# Altium integrated library Altera APEX 20K.IntLib: 93 symbols (part 1 of 14)
Pins are listed as number, name and electrical type; pins without a type are passive.

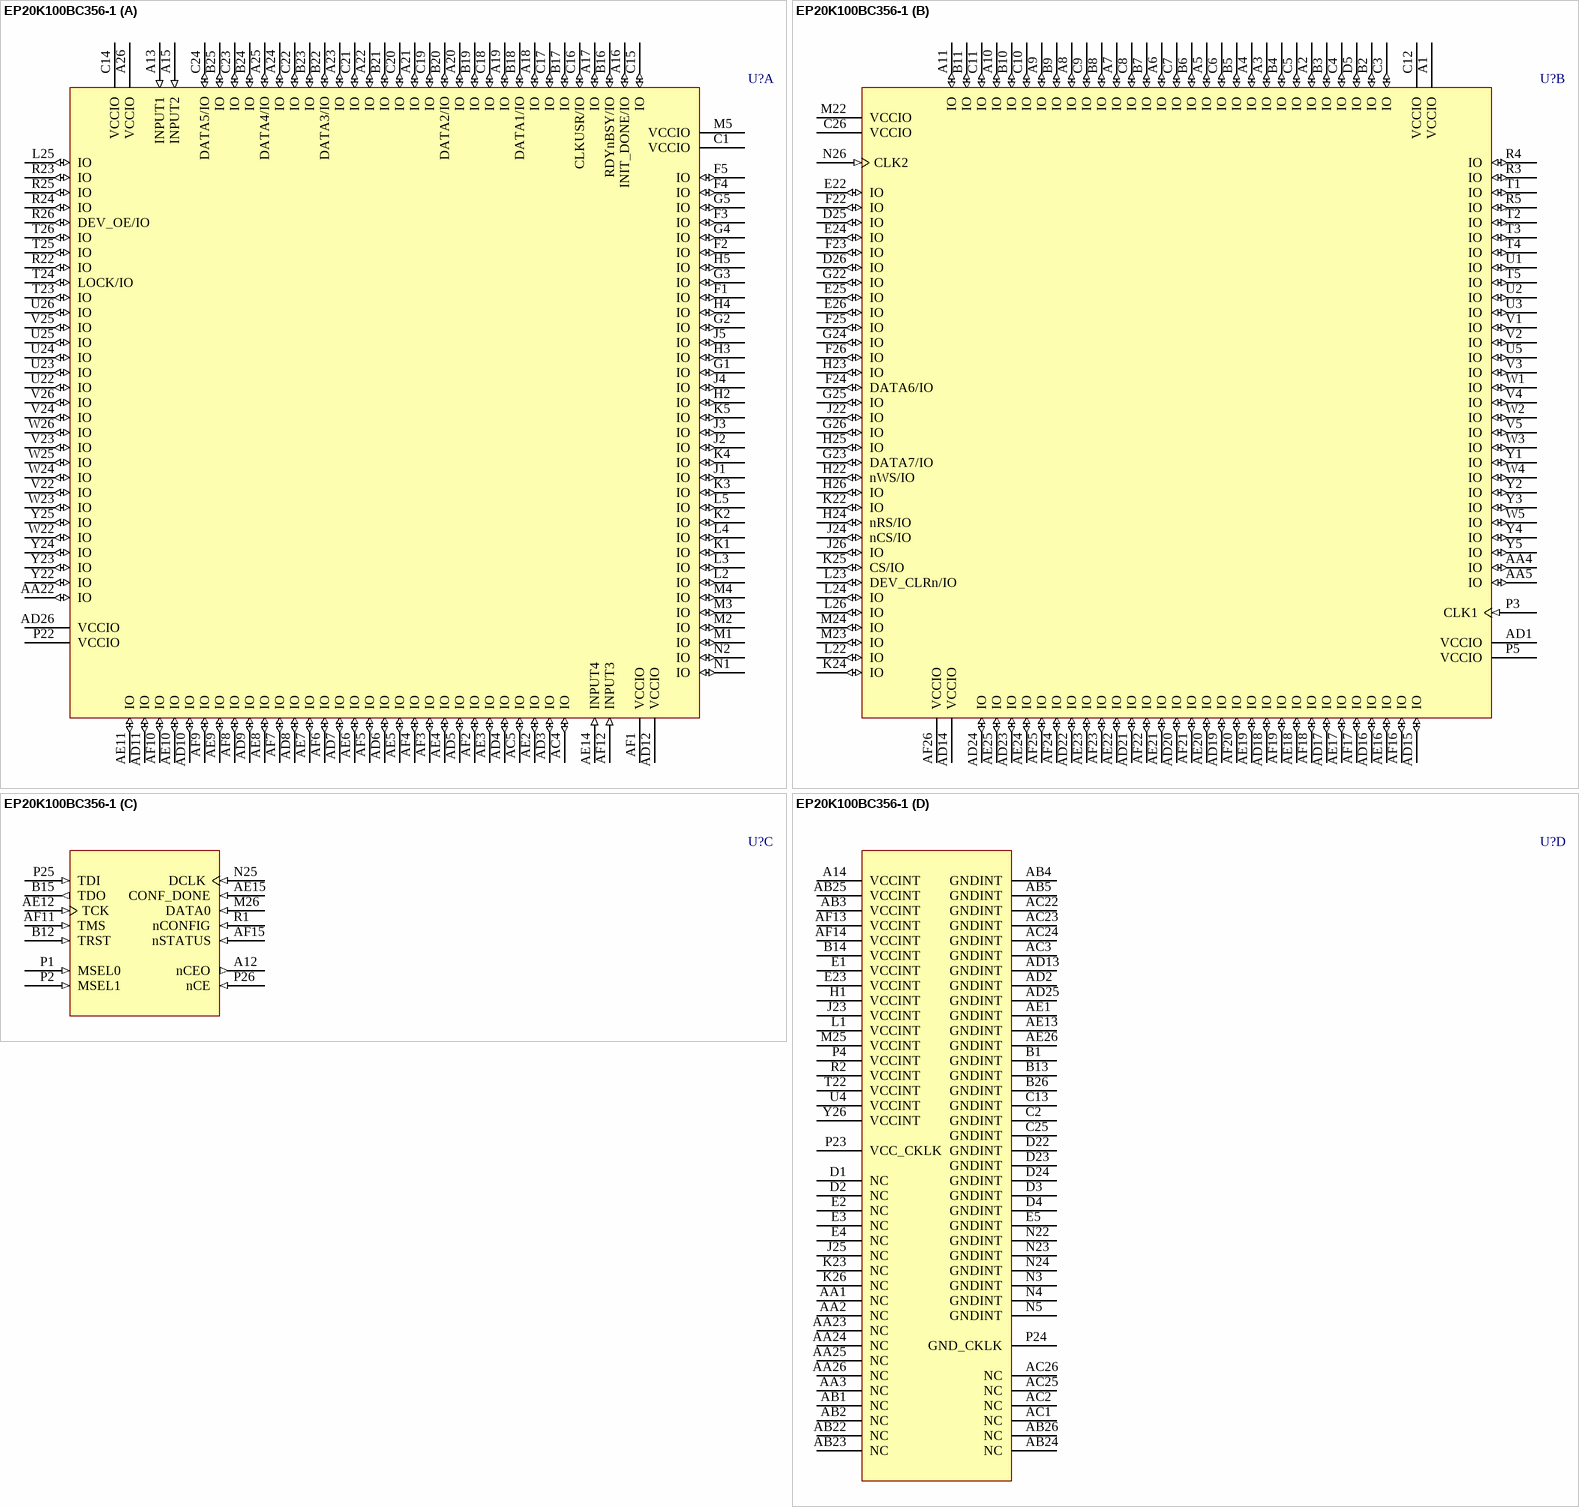
[diagram p0: symbol EP20K100BC356-1]

## EP20K100BC356-1
designator U?
APEX 20K100 PLD, 356-Pin BGA, Commercial Grade, Speed Grade 1; Published: 17-Jul-2002; LatestRevisionDate: 13-Apr-2006; LatestRevisionNote: IPC-7351 Footprint Added.; DatasheetVersion: ver5.1, Mar-2004; PackageVersion: ver14.2, Oct-2005; PackageReference: BGA356; Publisher: Altium Limited; PackageDescription: 356-Ball Ball Grid Array (BGA356); Code_JEDEC: MO-192-BAR-2; ComponentLink1Description: Manufacturer Link; ComponentLink1URL: http://www.altera.com/products/devices/apex/apx-index.html; ComponentLink2Description: Datasheet; ComponentLink2URL: http://www.altera.com/literature/ds/apex.pdf
footprint BGA356 (BGA, 356-Leads, Body 35x35mm, Pitch 1.27mm)
3D model EP20K100-BGA356 (356-Ball Ball Grid Array (BGA356))
part A pins: A13 INPUT1 (in), A15 INPUT2 (in), A16 INIT_DONE/IO (io), A17 IO (io), A18 IO (io), A19 IO (io), A20 IO (io), A21 IO (io), A22 IO (io), A23 IO (io), A24 IO (io), A25 DATA4/IO (io), A26 VCCIO (power), AA22 IO (io), AC4 IO (io), AC5 IO (io), AD3 IO (io), AD4 IO (io), AD5 IO (io), AD6 IO (io), AD7 IO (io), AD8 IO (io), AD9 IO (io), AD10 IO (io), AD11 IO (io), AD12 VCCIO (power), AD26 VCCIO (power), AE2 IO (io), AE3 IO (io), AE4 IO (io), AE5 IO (io), AE6 IO (io), AE7 IO (io), AE8 IO (io), AE9 IO (io), AE10 IO (io), AE11 IO (io), AE14 INPUT4 (in), AF1 VCCIO (power), AF2 IO (io), AF3 IO (io), AF4 IO (io), AF5 IO (io), AF6 IO (io), AF7 IO (io), AF8 IO (io), AF9 IO (io), AF10 IO (io), AF12 INPUT3 (in), B16 RDYnBSY/IO (io), B17 IO (io), B18 DATA1/IO (io), B19 IO (io), B20 DATA2/IO (io), B21 IO (io), B22 DATA3/IO (io), B23 IO (io), B24 IO (io), B25 IO (io), C1 VCCIO (power), C14 VCCIO (power), C15 IO (io), C16 CLKUSR/IO (io), C17 IO (io), C18 IO (io), C19 IO (io), C20 IO (io), C21 IO (io), C22 IO (io), C23 IO (io), C24 DATA5/IO (io), F1 IO (io), F2 IO (io), F3 IO (io), F4 IO (io), F5 IO (io), G1 IO (io), G2 IO (io), G3 IO (io), G4 IO (io), G5 IO (io), H2 IO (io), H3 IO (io), H4 IO (io), H5 IO (io), J1 IO (io), J2 IO (io), J3 IO (io), J4 IO (io), J5 IO (io), K1 IO (io), K2 IO (io), K3 IO (io), K4 IO (io), K5 IO (io), L2 IO (io), L3 IO (io), L4 IO (io), L5 IO (io), L25 IO (io), M1 IO (io), M2 IO (io), M3 IO (io), M4 IO (io), M5 VCCIO (power), N1 IO (io), N2 IO (io), P22 VCCIO (power), R22 IO (io), R23 IO (io), R24 IO (io), R25 IO (io), R26 DEV_OE/IO (io), T23 IO (io), T24 LOCK/IO (io), T25 IO (io), T26 IO (io), U22 IO (io), U23 IO (io), U24 IO (io), U25 IO (io), U26 IO (io), V22 IO (io), V23 IO (io), V24 IO (io), V25 IO (io), V26 IO (io), W22 IO (io), W23 IO (io), W24 IO (io), W25 IO (io), W26 IO (io), Y22 IO (io), Y23 IO (io), Y24 IO (io), Y25 IO (io)
part B pins: A1 VCCIO (power), A2 IO (io), A3 IO (io), A4 IO (io), A5 IO (io), A6 IO (io), A7 IO (io), A8 IO (io), A9 IO (io), A10 IO (io), A11 IO (io), AA4 IO (io), AA5 IO (io), AD1 VCCIO (power), AD14 VCCIO (power), AD15 IO (io), AD16 IO (io), AD17 IO (io), AD18 IO (io), AD19 IO (io), AD20 IO (io), AD21 IO (io), AD22 IO (io), AD23 IO (io), AD24 IO (io), AE16 IO (io), AE17 IO (io), AE18 IO (io), AE19 IO (io), AE20 IO (io), AE21 IO (io), AE22 IO (io), AE23 IO (io), AE24 IO (io), AE25 IO (io), AF16 IO (io), AF17 IO (io), AF18 IO (io), AF19 IO (io), AF20 IO (io), AF21 IO (io), AF22 IO (io), AF23 IO (io), AF24 IO (io), AF25 IO (io), AF26 VCCIO (power), B2 IO (io), B3 IO (io), B4 IO (io), B5 IO (io), B6 IO (io), B7 IO (io), B8 IO (io), B9 IO (io), B10 IO (io), B11 IO (io), C3 IO (io), C4 IO (io), C5 IO (io), C6 IO (io), C7 IO (io), C8 IO (io), C9 IO (io), C10 IO (io), C11 IO (io), C12 VCCIO (power), C26 VCCIO (power), D5 IO (io), D25 IO (io), D26 IO (io), E22 IO (io), E24 IO (io), E25 IO (io), E26 IO (io), F22 IO (io), F23 IO (io), F24 DATA6/IO (io), F25 IO (io), F26 IO (io), G22 IO (io), G23 DATA7/IO (io), G24 IO (io), G25 IO (io), G26 IO (io), H22 nWS/IO (io), H23 IO (io), H24 nRS/IO (io), H25 IO (io), H26 IO (io), J22 IO (io), J24 nCS/IO (io), J26 IO (io), K22 IO (io), K24 IO (io), K25 CS/IO (io), L22 IO (io), L23 DEV_CLRn/IO (io), L24 IO (io), L26 IO (io), M22 VCCIO (power), M23 IO (io), M24 IO (io), N26 CLK2 (in), P3 CLK1 (in), P5 VCCIO (power), R3 IO (io), R4 IO (io), R5 IO (io), T1 IO (io), T2 IO (io), T3 IO (io), T4 IO (io), T5 IO (io), U1 IO (io), U2 IO (io), U3 IO (io), U5 IO (io), V1 IO (io), V2 IO (io), V3 IO (io), V4 IO (io), V5 IO (io), W1 IO (io), W2 IO (io), W3 IO (io), W4 IO (io), W5 IO (io), Y1 IO (io), Y2 IO (io), Y3 IO (io), Y4 IO (io), Y5 IO (io)
part C pins: A12 nCEO (out), AE12 TCK (in), AE15 CONF_DONE (in), AF11 TMS (in), AF15 nSTATUS (in), B12 TRST (in), B15 TDO (out), M26 DATA0 (in), N25 DCLK (in), P1 MSEL0 (in), P2 MSEL1 (in), P25 TDI (in), P26 nCE (in), R1 nCONFIG (in)
part D pins: A14 VCCINT (power), AA1 NC, AA2 NC, AA3 NC, AA23 NC, AA24 NC, AA25 NC, AA26 NC, AB1 NC, AB2 NC, AB3 VCCINT (power), AB4 GNDINT (power), AB5 GNDINT (power), AB22 NC, AB23 NC, AB24 NC, AB25 VCCINT (power), AB26 NC, AC1 NC, AC2 NC, AC3 GNDINT (power), AC22 GNDINT (power), AC23 GNDINT (power), AC24 GNDINT (power), AC25 NC, AC26 NC, AD2 GNDINT (power), AD13 GNDINT (power), AD25 GNDINT (power), AE1 GNDINT (power), AE13 GNDINT (power), AE26 GNDINT (power), AF13 VCCINT (power), AF14 VCCINT (power), B1 GNDINT (power), B13 GNDINT (power), B14 VCCINT (power), B26 GNDINT (power), C2 GNDINT (power), C13 GNDINT (power), C25 GNDINT (power), D1 NC, D2 NC, D3 GNDINT (power), D4 GNDINT (power), D22 GNDINT (power), D23 GNDINT (power), D24 GNDINT (power), E1 VCCINT (power), E2 NC, E3 NC, E4 NC, E5 GNDINT (power), E23 VCCINT (power), H1 VCCINT (power), J23 VCCINT (power), J25 NC, K23 NC, K26 NC, L1 VCCINT (power), M25 VCCINT (power), N3 GNDINT (power), N4 GNDINT (power), N5 GNDINT (power), N22 GNDINT (power), N23 GNDINT (power), N24 GNDINT (power), P4 VCCINT (power), P23 VCC_CKLK (power), P24 GND_CKLK (power), R2 VCCINT (power), T22 VCCINT (power), U4 VCCINT (power), Y26 VCCINT (power)

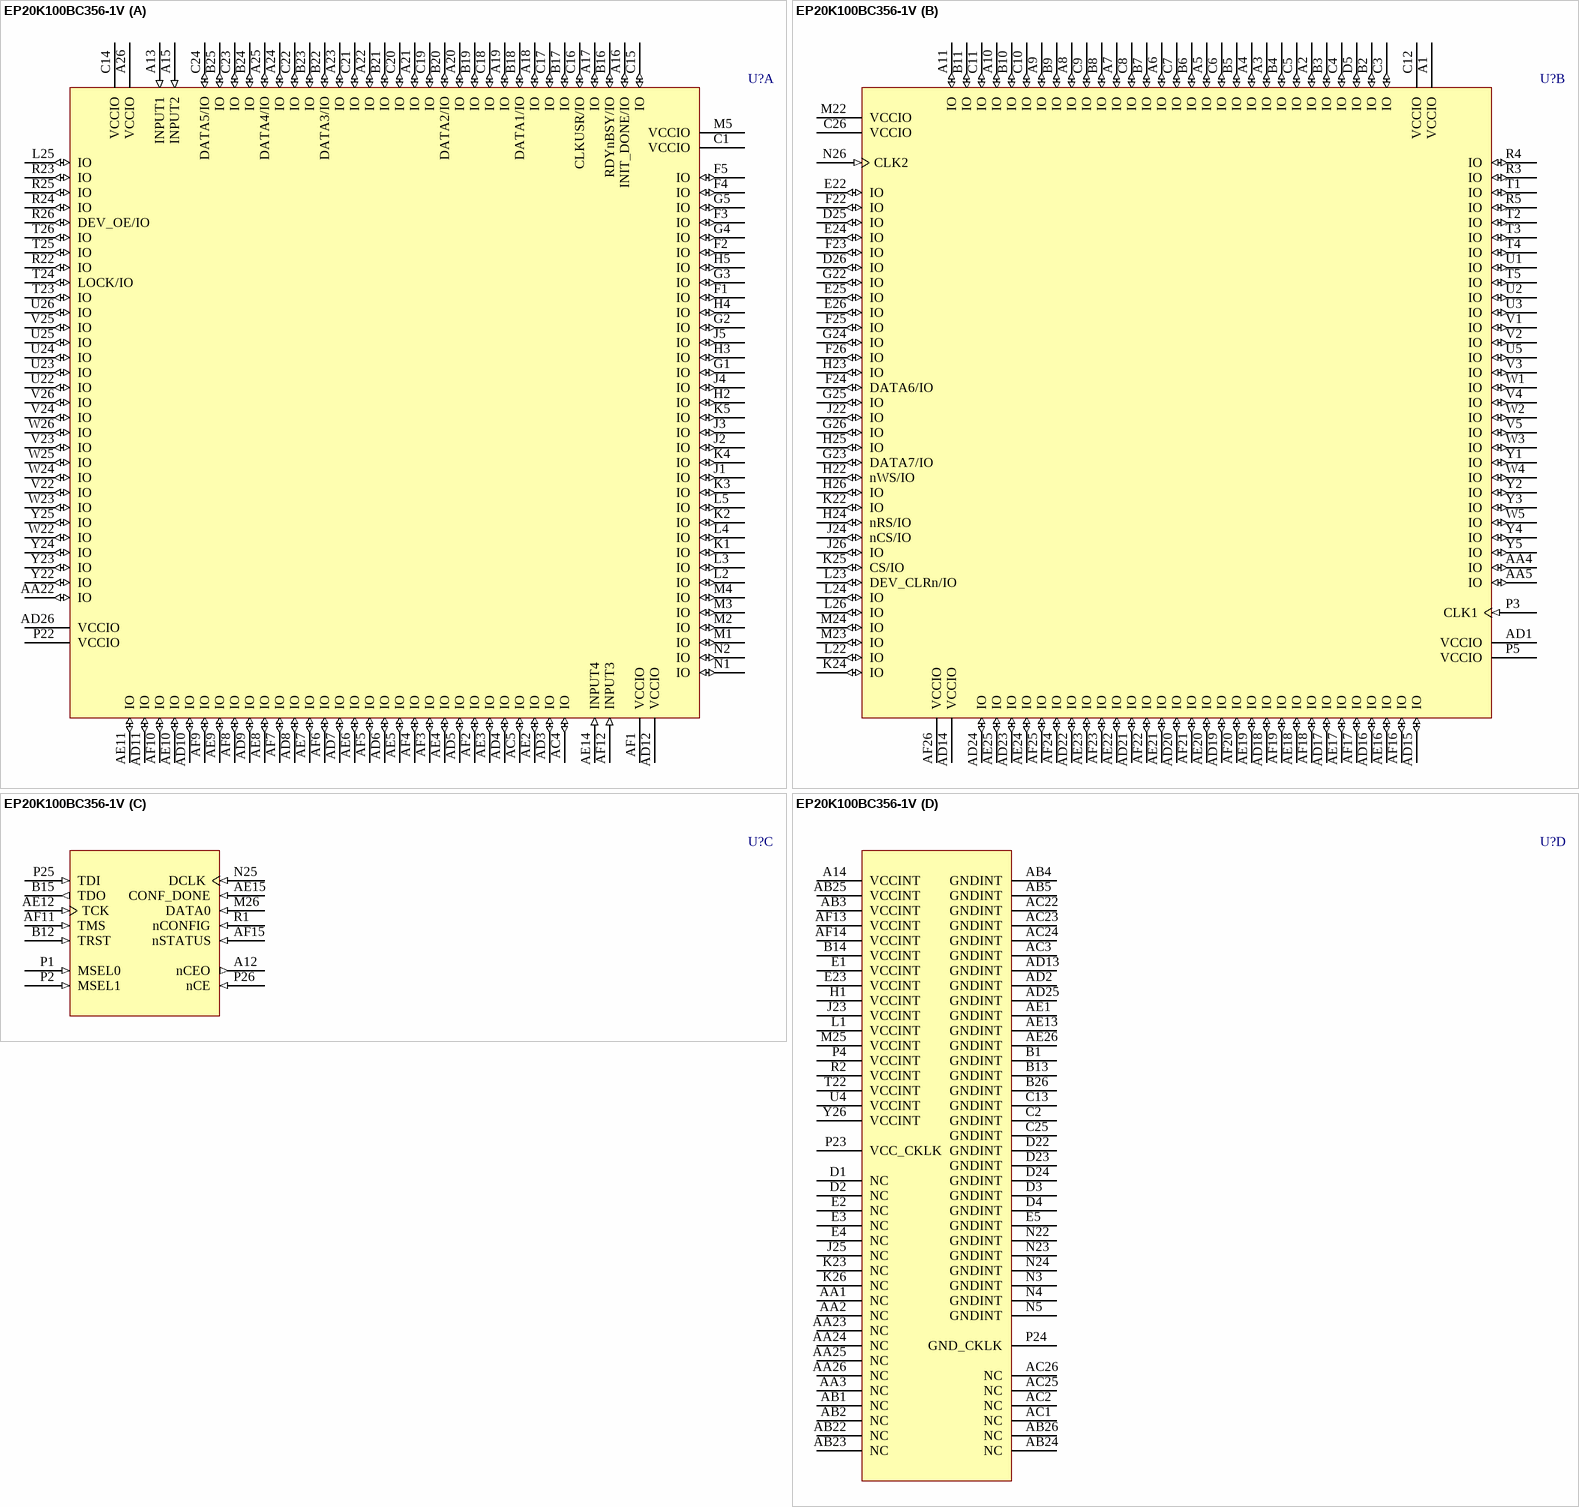
[diagram p1: symbol EP20K100BC356-1V]

## EP20K100BC356-1V
designator U?
APEX 20K100 PLD with 5 V tolerant inputs, 356-Pin BGA, Commercial Grade, Speed Grade 1; ComponentAvailability: Last order accepted - 22-Jul-2005; Published: 17-Jul-2002; LatestRevisionDate: 13-Apr-2006; LatestRevisionNote: IPC-7351 Footprint Added.; DatasheetVersion: ver5.1, Mar-2004; PackageVersion: ver14.2, Oct-2005; PackageReference: BGA356; Publisher: Altium Limited; PackageDescription: 356-Ball Ball Grid Array (BGA356); Code_JEDEC: MO-192-BAR-2; ComponentLink1Description: Manufacturer Link; ComponentLink1URL: http://www.altera.com/products/devices/apex/apx-index.html; ComponentLink2Description: Datasheet; ComponentLink2URL: http://www.altera.com/literature/ds/apex.pdf; ComponentLink3Description: Discontinuation Notice; ComponentLink3URL: http://www.altera.com/literature/pcn/pdn0401.pdf
footprint BGA356 (BGA, 356-Leads, Body 35x35mm, Pitch 1.27mm)
3D model EP20K100-BGA356 (356-Ball Ball Grid Array (BGA356))
part A pins: A13 INPUT1 (in), A15 INPUT2 (in), A16 INIT_DONE/IO (io), A17 IO (io), A18 IO (io), A19 IO (io), A20 IO (io), A21 IO (io), A22 IO (io), A23 IO (io), A24 IO (io), A25 DATA4/IO (io), A26 VCCIO (power), AA22 IO (io), AC4 IO (io), AC5 IO (io), AD3 IO (io), AD4 IO (io), AD5 IO (io), AD6 IO (io), AD7 IO (io), AD8 IO (io), AD9 IO (io), AD10 IO (io), AD11 IO (io), AD12 VCCIO (power), AD26 VCCIO (power), AE2 IO (io), AE3 IO (io), AE4 IO (io), AE5 IO (io), AE6 IO (io), AE7 IO (io), AE8 IO (io), AE9 IO (io), AE10 IO (io), AE11 IO (io), AE14 INPUT4 (in), AF1 VCCIO (power), AF2 IO (io), AF3 IO (io), AF4 IO (io), AF5 IO (io), AF6 IO (io), AF7 IO (io), AF8 IO (io), AF9 IO (io), AF10 IO (io), AF12 INPUT3 (in), B16 RDYnBSY/IO (io), B17 IO (io), B18 DATA1/IO (io), B19 IO (io), B20 DATA2/IO (io), B21 IO (io), B22 DATA3/IO (io), B23 IO (io), B24 IO (io), B25 IO (io), C1 VCCIO (power), C14 VCCIO (power), C15 IO (io), C16 CLKUSR/IO (io), C17 IO (io), C18 IO (io), C19 IO (io), C20 IO (io), C21 IO (io), C22 IO (io), C23 IO (io), C24 DATA5/IO (io), F1 IO (io), F2 IO (io), F3 IO (io), F4 IO (io), F5 IO (io), G1 IO (io), G2 IO (io), G3 IO (io), G4 IO (io), G5 IO (io), H2 IO (io), H3 IO (io), H4 IO (io), H5 IO (io), J1 IO (io), J2 IO (io), J3 IO (io), J4 IO (io), J5 IO (io), K1 IO (io), K2 IO (io), K3 IO (io), K4 IO (io), K5 IO (io), L2 IO (io), L3 IO (io), L4 IO (io), L5 IO (io), L25 IO (io), M1 IO (io), M2 IO (io), M3 IO (io), M4 IO (io), M5 VCCIO (power), N1 IO (io), N2 IO (io), P22 VCCIO (power), R22 IO (io), R23 IO (io), R24 IO (io), R25 IO (io), R26 DEV_OE/IO (io), T23 IO (io), T24 LOCK/IO (io), T25 IO (io), T26 IO (io), U22 IO (io), U23 IO (io), U24 IO (io), U25 IO (io), U26 IO (io), V22 IO (io), V23 IO (io), V24 IO (io), V25 IO (io), V26 IO (io), W22 IO (io), W23 IO (io), W24 IO (io), W25 IO (io), W26 IO (io), Y22 IO (io), Y23 IO (io), Y24 IO (io), Y25 IO (io)
part B pins: A1 VCCIO (power), A2 IO (io), A3 IO (io), A4 IO (io), A5 IO (io), A6 IO (io), A7 IO (io), A8 IO (io), A9 IO (io), A10 IO (io), A11 IO (io), AA4 IO (io), AA5 IO (io), AD1 VCCIO (power), AD14 VCCIO (power), AD15 IO (io), AD16 IO (io), AD17 IO (io), AD18 IO (io), AD19 IO (io), AD20 IO (io), AD21 IO (io), AD22 IO (io), AD23 IO (io), AD24 IO (io), AE16 IO (io), AE17 IO (io), AE18 IO (io), AE19 IO (io), AE20 IO (io), AE21 IO (io), AE22 IO (io), AE23 IO (io), AE24 IO (io), AE25 IO (io), AF16 IO (io), AF17 IO (io), AF18 IO (io), AF19 IO (io), AF20 IO (io), AF21 IO (io), AF22 IO (io), AF23 IO (io), AF24 IO (io), AF25 IO (io), AF26 VCCIO (power), B2 IO (io), B3 IO (io), B4 IO (io), B5 IO (io), B6 IO (io), B7 IO (io), B8 IO (io), B9 IO (io), B10 IO (io), B11 IO (io), C3 IO (io), C4 IO (io), C5 IO (io), C6 IO (io), C7 IO (io), C8 IO (io), C9 IO (io), C10 IO (io), C11 IO (io), C12 VCCIO (power), C26 VCCIO (power), D5 IO (io), D25 IO (io), D26 IO (io), E22 IO (io), E24 IO (io), E25 IO (io), E26 IO (io), F22 IO (io), F23 IO (io), F24 DATA6/IO (io), F25 IO (io), F26 IO (io), G22 IO (io), G23 DATA7/IO (io), G24 IO (io), G25 IO (io), G26 IO (io), H22 nWS/IO (io), H23 IO (io), H24 nRS/IO (io), H25 IO (io), H26 IO (io), J22 IO (io), J24 nCS/IO (io), J26 IO (io), K22 IO (io), K24 IO (io), K25 CS/IO (io), L22 IO (io), L23 DEV_CLRn/IO (io), L24 IO (io), L26 IO (io), M22 VCCIO (power), M23 IO (io), M24 IO (io), N26 CLK2 (in), P3 CLK1 (in), P5 VCCIO (power), R3 IO (io), R4 IO (io), R5 IO (io), T1 IO (io), T2 IO (io), T3 IO (io), T4 IO (io), T5 IO (io), U1 IO (io), U2 IO (io), U3 IO (io), U5 IO (io), V1 IO (io), V2 IO (io), V3 IO (io), V4 IO (io), V5 IO (io), W1 IO (io), W2 IO (io), W3 IO (io), W4 IO (io), W5 IO (io), Y1 IO (io), Y2 IO (io), Y3 IO (io), Y4 IO (io), Y5 IO (io)
part C pins: A12 nCEO (out), AE12 TCK (in), AE15 CONF_DONE (in), AF11 TMS (in), AF15 nSTATUS (in), B12 TRST (in), B15 TDO (out), M26 DATA0 (in), N25 DCLK (in), P1 MSEL0 (in), P2 MSEL1 (in), P25 TDI (in), P26 nCE (in), R1 nCONFIG (in)
part D pins: A14 VCCINT (power), AA1 NC, AA2 NC, AA3 NC, AA23 NC, AA24 NC, AA25 NC, AA26 NC, AB1 NC, AB2 NC, AB3 VCCINT (power), AB4 GNDINT (power), AB5 GNDINT (power), AB22 NC, AB23 NC, AB24 NC, AB25 VCCINT (power), AB26 NC, AC1 NC, AC2 NC, AC3 GNDINT (power), AC22 GNDINT (power), AC23 GNDINT (power), AC24 GNDINT (power), AC25 NC, AC26 NC, AD2 GNDINT (power), AD13 GNDINT (power), AD25 GNDINT (power), AE1 GNDINT (power), AE13 GNDINT (power), AE26 GNDINT (power), AF13 VCCINT (power), AF14 VCCINT (power), B1 GNDINT (power), B13 GNDINT (power), B14 VCCINT (power), B26 GNDINT (power), C2 GNDINT (power), C13 GNDINT (power), C25 GNDINT (power), D1 NC, D2 NC, D3 GNDINT (power), D4 GNDINT (power), D22 GNDINT (power), D23 GNDINT (power), D24 GNDINT (power), E1 VCCINT (power), E2 NC, E3 NC, E4 NC, E5 GNDINT (power), E23 VCCINT (power), H1 VCCINT (power), J23 VCCINT (power), J25 NC, K23 NC, K26 NC, L1 VCCINT (power), M25 VCCINT (power), N3 GNDINT (power), N4 GNDINT (power), N5 GNDINT (power), N22 GNDINT (power), N23 GNDINT (power), N24 GNDINT (power), P4 VCCINT (power), P23 VCC_CKLK (power), P24 GND_CKLK (power), R2 VCCINT (power), T22 VCCINT (power), U4 VCCINT (power), Y26 VCCINT (power)

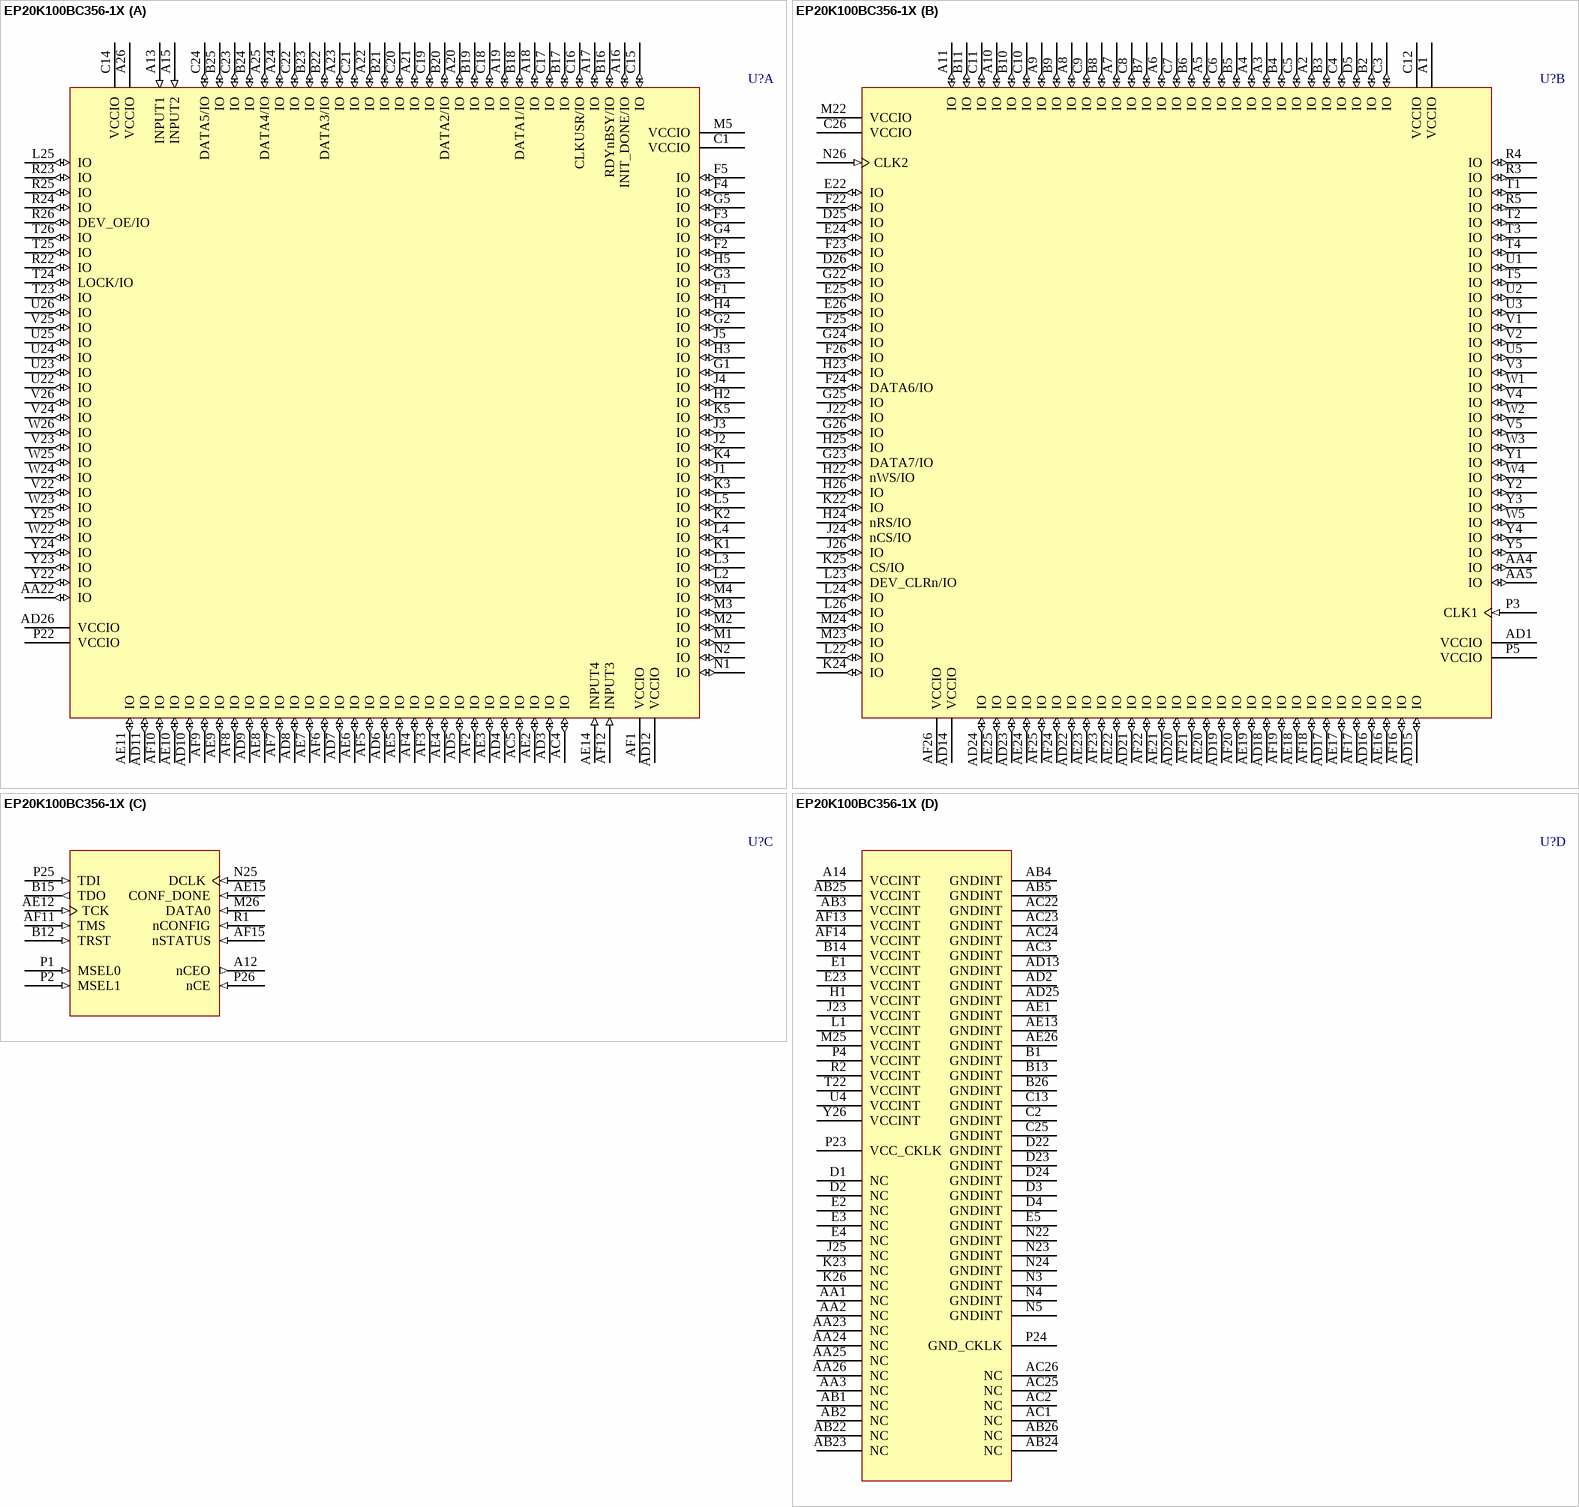
[diagram p2: symbol EP20K100BC356-1X]

## EP20K100BC356-1X
designator U?
APEX 20K100 PLD with PLLs, 356-Pin BGA, Commercial Grade, Speed Grade 1; Published: 17-Jul-2002; LatestRevisionDate: 13-Apr-2006; LatestRevisionNote: IPC-7351 Footprint Added.; DatasheetVersion: ver5.1, Mar-2004; PackageVersion: ver14.2, Oct-2005; PackageReference: BGA356; Publisher: Altium Limited; PackageDescription: 356-Ball Ball Grid Array (BGA356); Code_JEDEC: MO-192-BAR-2; ComponentLink1Description: Manufacturer Link; ComponentLink1URL: http://www.altera.com/products/devices/apex/apx-index.html; ComponentLink2Description: Datasheet; ComponentLink2URL: http://www.altera.com/literature/ds/apex.pdf
footprint BGA356 (BGA, 356-Leads, Body 35x35mm, Pitch 1.27mm)
3D model EP20K100-BGA356 (356-Ball Ball Grid Array (BGA356))
part A pins: A13 INPUT1 (in), A15 INPUT2 (in), A16 INIT_DONE/IO (io), A17 IO (io), A18 IO (io), A19 IO (io), A20 IO (io), A21 IO (io), A22 IO (io), A23 IO (io), A24 IO (io), A25 DATA4/IO (io), A26 VCCIO (power), AA22 IO (io), AC4 IO (io), AC5 IO (io), AD3 IO (io), AD4 IO (io), AD5 IO (io), AD6 IO (io), AD7 IO (io), AD8 IO (io), AD9 IO (io), AD10 IO (io), AD11 IO (io), AD12 VCCIO (power), AD26 VCCIO (power), AE2 IO (io), AE3 IO (io), AE4 IO (io), AE5 IO (io), AE6 IO (io), AE7 IO (io), AE8 IO (io), AE9 IO (io), AE10 IO (io), AE11 IO (io), AE14 INPUT4 (in), AF1 VCCIO (power), AF2 IO (io), AF3 IO (io), AF4 IO (io), AF5 IO (io), AF6 IO (io), AF7 IO (io), AF8 IO (io), AF9 IO (io), AF10 IO (io), AF12 INPUT3 (in), B16 RDYnBSY/IO (io), B17 IO (io), B18 DATA1/IO (io), B19 IO (io), B20 DATA2/IO (io), B21 IO (io), B22 DATA3/IO (io), B23 IO (io), B24 IO (io), B25 IO (io), C1 VCCIO (power), C14 VCCIO (power), C15 IO (io), C16 CLKUSR/IO (io), C17 IO (io), C18 IO (io), C19 IO (io), C20 IO (io), C21 IO (io), C22 IO (io), C23 IO (io), C24 DATA5/IO (io), F1 IO (io), F2 IO (io), F3 IO (io), F4 IO (io), F5 IO (io), G1 IO (io), G2 IO (io), G3 IO (io), G4 IO (io), G5 IO (io), H2 IO (io), H3 IO (io), H4 IO (io), H5 IO (io), J1 IO (io), J2 IO (io), J3 IO (io), J4 IO (io), J5 IO (io), K1 IO (io), K2 IO (io), K3 IO (io), K4 IO (io), K5 IO (io), L2 IO (io), L3 IO (io), L4 IO (io), L5 IO (io), L25 IO (io), M1 IO (io), M2 IO (io), M3 IO (io), M4 IO (io), M5 VCCIO (power), N1 IO (io), N2 IO (io), P22 VCCIO (power), R22 IO (io), R23 IO (io), R24 IO (io), R25 IO (io), R26 DEV_OE/IO (io), T23 IO (io), T24 LOCK/IO (io), T25 IO (io), T26 IO (io), U22 IO (io), U23 IO (io), U24 IO (io), U25 IO (io), U26 IO (io), V22 IO (io), V23 IO (io), V24 IO (io), V25 IO (io), V26 IO (io), W22 IO (io), W23 IO (io), W24 IO (io), W25 IO (io), W26 IO (io), Y22 IO (io), Y23 IO (io), Y24 IO (io), Y25 IO (io)
part B pins: A1 VCCIO (power), A2 IO (io), A3 IO (io), A4 IO (io), A5 IO (io), A6 IO (io), A7 IO (io), A8 IO (io), A9 IO (io), A10 IO (io), A11 IO (io), AA4 IO (io), AA5 IO (io), AD1 VCCIO (power), AD14 VCCIO (power), AD15 IO (io), AD16 IO (io), AD17 IO (io), AD18 IO (io), AD19 IO (io), AD20 IO (io), AD21 IO (io), AD22 IO (io), AD23 IO (io), AD24 IO (io), AE16 IO (io), AE17 IO (io), AE18 IO (io), AE19 IO (io), AE20 IO (io), AE21 IO (io), AE22 IO (io), AE23 IO (io), AE24 IO (io), AE25 IO (io), AF16 IO (io), AF17 IO (io), AF18 IO (io), AF19 IO (io), AF20 IO (io), AF21 IO (io), AF22 IO (io), AF23 IO (io), AF24 IO (io), AF25 IO (io), AF26 VCCIO (power), B2 IO (io), B3 IO (io), B4 IO (io), B5 IO (io), B6 IO (io), B7 IO (io), B8 IO (io), B9 IO (io), B10 IO (io), B11 IO (io), C3 IO (io), C4 IO (io), C5 IO (io), C6 IO (io), C7 IO (io), C8 IO (io), C9 IO (io), C10 IO (io), C11 IO (io), C12 VCCIO (power), C26 VCCIO (power), D5 IO (io), D25 IO (io), D26 IO (io), E22 IO (io), E24 IO (io), E25 IO (io), E26 IO (io), F22 IO (io), F23 IO (io), F24 DATA6/IO (io), F25 IO (io), F26 IO (io), G22 IO (io), G23 DATA7/IO (io), G24 IO (io), G25 IO (io), G26 IO (io), H22 nWS/IO (io), H23 IO (io), H24 nRS/IO (io), H25 IO (io), H26 IO (io), J22 IO (io), J24 nCS/IO (io), J26 IO (io), K22 IO (io), K24 IO (io), K25 CS/IO (io), L22 IO (io), L23 DEV_CLRn/IO (io), L24 IO (io), L26 IO (io), M22 VCCIO (power), M23 IO (io), M24 IO (io), N26 CLK2 (in), P3 CLK1 (in), P5 VCCIO (power), R3 IO (io), R4 IO (io), R5 IO (io), T1 IO (io), T2 IO (io), T3 IO (io), T4 IO (io), T5 IO (io), U1 IO (io), U2 IO (io), U3 IO (io), U5 IO (io), V1 IO (io), V2 IO (io), V3 IO (io), V4 IO (io), V5 IO (io), W1 IO (io), W2 IO (io), W3 IO (io), W4 IO (io), W5 IO (io), Y1 IO (io), Y2 IO (io), Y3 IO (io), Y4 IO (io), Y5 IO (io)
part C pins: A12 nCEO (out), AE12 TCK (in), AE15 CONF_DONE (in), AF11 TMS (in), AF15 nSTATUS (in), B12 TRST (in), B15 TDO (out), M26 DATA0 (in), N25 DCLK (in), P1 MSEL0 (in), P2 MSEL1 (in), P25 TDI (in), P26 nCE (in), R1 nCONFIG (in)
part D pins: A14 VCCINT (power), AA1 NC, AA2 NC, AA3 NC, AA23 NC, AA24 NC, AA25 NC, AA26 NC, AB1 NC, AB2 NC, AB3 VCCINT (power), AB4 GNDINT (power), AB5 GNDINT (power), AB22 NC, AB23 NC, AB24 NC, AB25 VCCINT (power), AB26 NC, AC1 NC, AC2 NC, AC3 GNDINT (power), AC22 GNDINT (power), AC23 GNDINT (power), AC24 GNDINT (power), AC25 NC, AC26 NC, AD2 GNDINT (power), AD13 GNDINT (power), AD25 GNDINT (power), AE1 GNDINT (power), AE13 GNDINT (power), AE26 GNDINT (power), AF13 VCCINT (power), AF14 VCCINT (power), B1 GNDINT (power), B13 GNDINT (power), B14 VCCINT (power), B26 GNDINT (power), C2 GNDINT (power), C13 GNDINT (power), C25 GNDINT (power), D1 NC, D2 NC, D3 GNDINT (power), D4 GNDINT (power), D22 GNDINT (power), D23 GNDINT (power), D24 GNDINT (power), E1 VCCINT (power), E2 NC, E3 NC, E4 NC, E5 GNDINT (power), E23 VCCINT (power), H1 VCCINT (power), J23 VCCINT (power), J25 NC, K23 NC, K26 NC, L1 VCCINT (power), M25 VCCINT (power), N3 GNDINT (power), N4 GNDINT (power), N5 GNDINT (power), N22 GNDINT (power), N23 GNDINT (power), N24 GNDINT (power), P4 VCCINT (power), P23 VCC_CKLK (power), P24 GND_CKLK (power), R2 VCCINT (power), T22 VCCINT (power), U4 VCCINT (power), Y26 VCCINT (power)

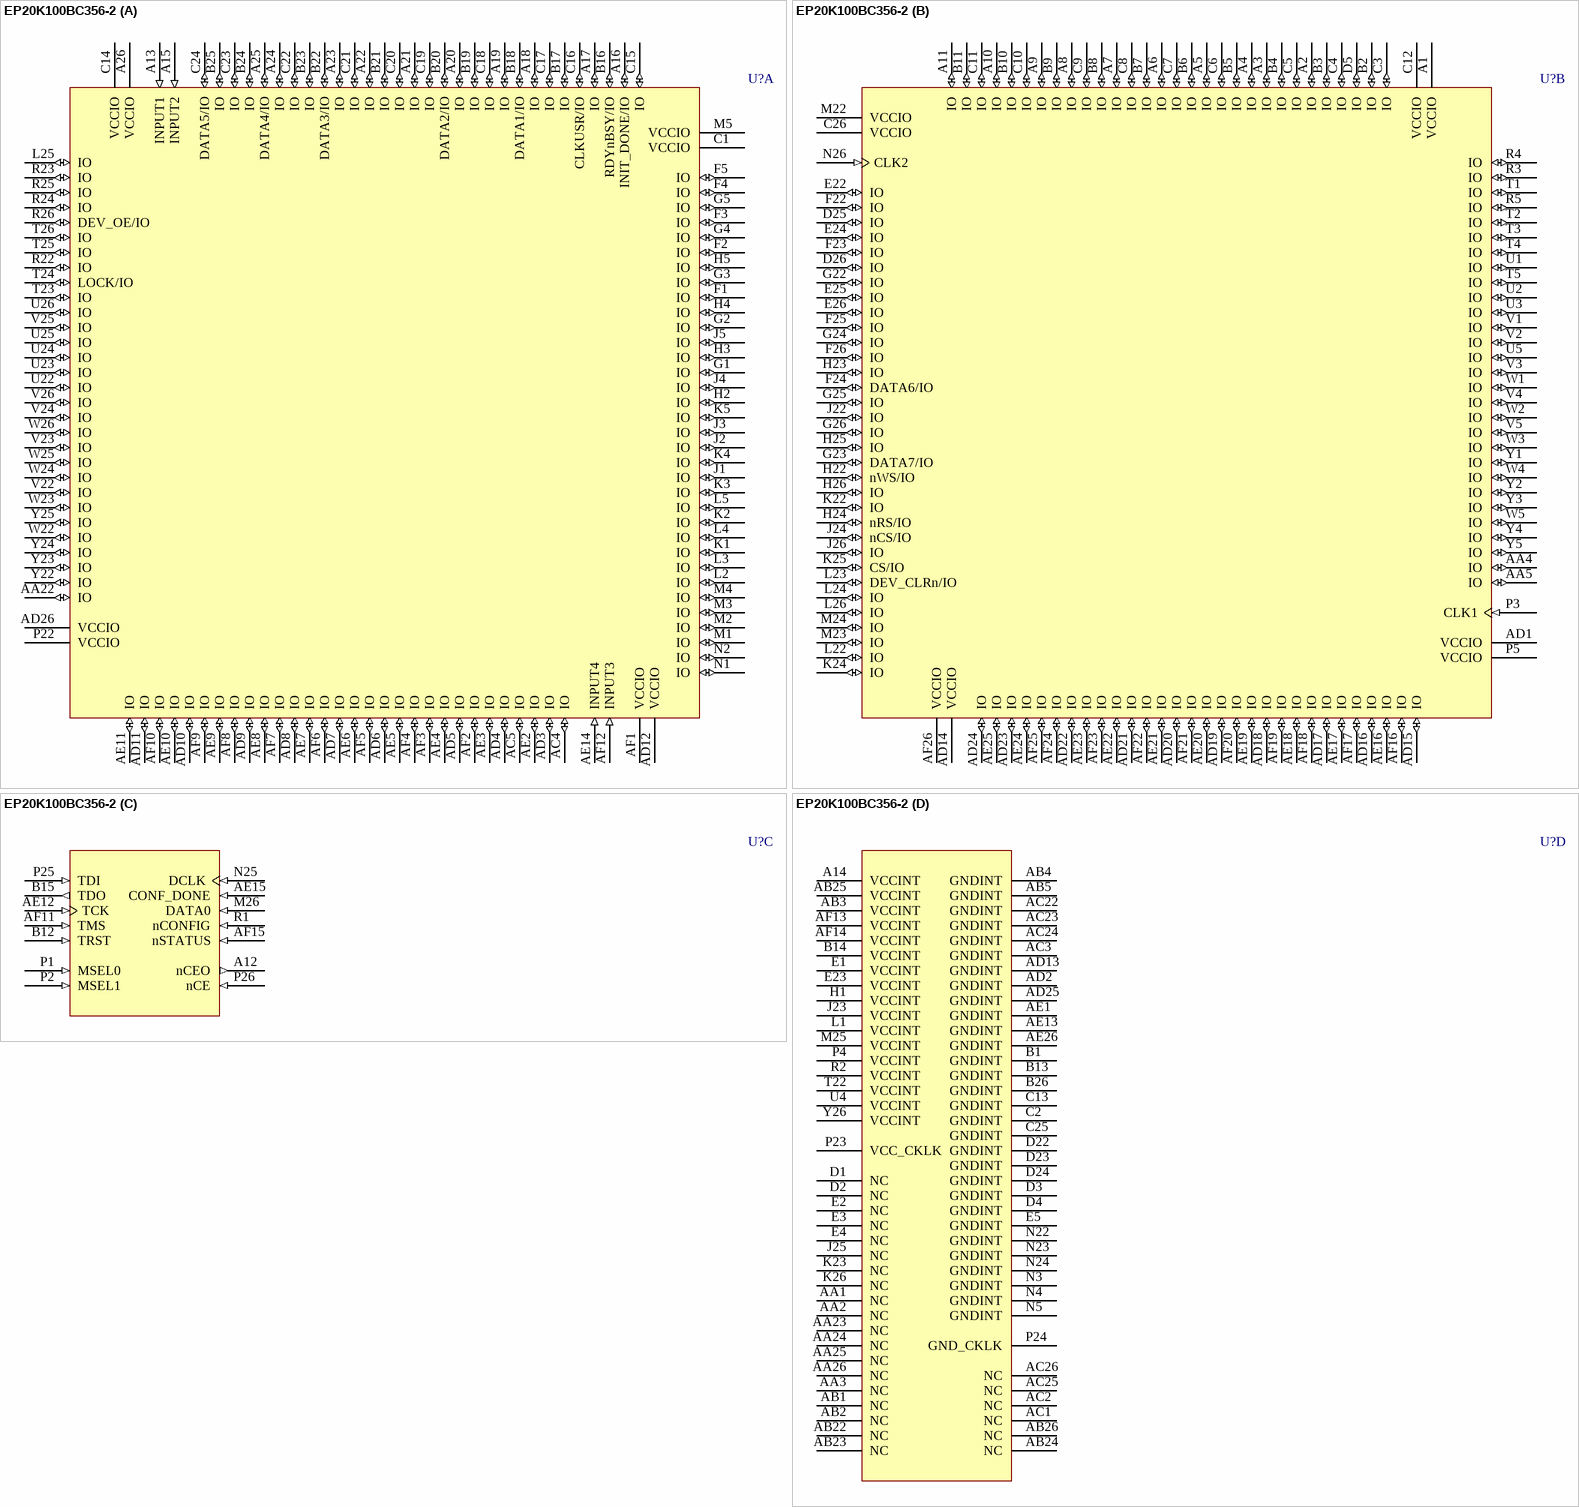
[diagram p3: symbol EP20K100BC356-2]

## EP20K100BC356-2
designator U?
APEX 20K100 PLD, 356-Pin BGA, Commercial Grade, Speed Grade 2; Published: 17-Jul-2002; LatestRevisionDate: 13-Apr-2006; LatestRevisionNote: IPC-7351 Footprint Added.; DatasheetVersion: ver5.1, Mar-2004; PackageVersion: ver14.2, Oct-2005; PackageReference: BGA356; Publisher: Altium Limited; PackageDescription: 356-Ball Ball Grid Array (BGA356); Code_JEDEC: MO-192-BAR-2; ComponentLink1Description: Manufacturer Link; ComponentLink1URL: http://www.altera.com/products/devices/apex/apx-index.html; ComponentLink2Description: Datasheet; ComponentLink2URL: http://www.altera.com/literature/ds/apex.pdf
footprint BGA356 (BGA, 356-Leads, Body 35x35mm, Pitch 1.27mm)
3D model EP20K100-BGA356 (356-Ball Ball Grid Array (BGA356))
part A pins: A13 INPUT1 (in), A15 INPUT2 (in), A16 INIT_DONE/IO (io), A17 IO (io), A18 IO (io), A19 IO (io), A20 IO (io), A21 IO (io), A22 IO (io), A23 IO (io), A24 IO (io), A25 DATA4/IO (io), A26 VCCIO (power), AA22 IO (io), AC4 IO (io), AC5 IO (io), AD3 IO (io), AD4 IO (io), AD5 IO (io), AD6 IO (io), AD7 IO (io), AD8 IO (io), AD9 IO (io), AD10 IO (io), AD11 IO (io), AD12 VCCIO (power), AD26 VCCIO (power), AE2 IO (io), AE3 IO (io), AE4 IO (io), AE5 IO (io), AE6 IO (io), AE7 IO (io), AE8 IO (io), AE9 IO (io), AE10 IO (io), AE11 IO (io), AE14 INPUT4 (in), AF1 VCCIO (power), AF2 IO (io), AF3 IO (io), AF4 IO (io), AF5 IO (io), AF6 IO (io), AF7 IO (io), AF8 IO (io), AF9 IO (io), AF10 IO (io), AF12 INPUT3 (in), B16 RDYnBSY/IO (io), B17 IO (io), B18 DATA1/IO (io), B19 IO (io), B20 DATA2/IO (io), B21 IO (io), B22 DATA3/IO (io), B23 IO (io), B24 IO (io), B25 IO (io), C1 VCCIO (power), C14 VCCIO (power), C15 IO (io), C16 CLKUSR/IO (io), C17 IO (io), C18 IO (io), C19 IO (io), C20 IO (io), C21 IO (io), C22 IO (io), C23 IO (io), C24 DATA5/IO (io), F1 IO (io), F2 IO (io), F3 IO (io), F4 IO (io), F5 IO (io), G1 IO (io), G2 IO (io), G3 IO (io), G4 IO (io), G5 IO (io), H2 IO (io), H3 IO (io), H4 IO (io), H5 IO (io), J1 IO (io), J2 IO (io), J3 IO (io), J4 IO (io), J5 IO (io), K1 IO (io), K2 IO (io), K3 IO (io), K4 IO (io), K5 IO (io), L2 IO (io), L3 IO (io), L4 IO (io), L5 IO (io), L25 IO (io), M1 IO (io), M2 IO (io), M3 IO (io), M4 IO (io), M5 VCCIO (power), N1 IO (io), N2 IO (io), P22 VCCIO (power), R22 IO (io), R23 IO (io), R24 IO (io), R25 IO (io), R26 DEV_OE/IO (io), T23 IO (io), T24 LOCK/IO (io), T25 IO (io), T26 IO (io), U22 IO (io), U23 IO (io), U24 IO (io), U25 IO (io), U26 IO (io), V22 IO (io), V23 IO (io), V24 IO (io), V25 IO (io), V26 IO (io), W22 IO (io), W23 IO (io), W24 IO (io), W25 IO (io), W26 IO (io), Y22 IO (io), Y23 IO (io), Y24 IO (io), Y25 IO (io)
part B pins: A1 VCCIO (power), A2 IO (io), A3 IO (io), A4 IO (io), A5 IO (io), A6 IO (io), A7 IO (io), A8 IO (io), A9 IO (io), A10 IO (io), A11 IO (io), AA4 IO (io), AA5 IO (io), AD1 VCCIO (power), AD14 VCCIO (power), AD15 IO (io), AD16 IO (io), AD17 IO (io), AD18 IO (io), AD19 IO (io), AD20 IO (io), AD21 IO (io), AD22 IO (io), AD23 IO (io), AD24 IO (io), AE16 IO (io), AE17 IO (io), AE18 IO (io), AE19 IO (io), AE20 IO (io), AE21 IO (io), AE22 IO (io), AE23 IO (io), AE24 IO (io), AE25 IO (io), AF16 IO (io), AF17 IO (io), AF18 IO (io), AF19 IO (io), AF20 IO (io), AF21 IO (io), AF22 IO (io), AF23 IO (io), AF24 IO (io), AF25 IO (io), AF26 VCCIO (power), B2 IO (io), B3 IO (io), B4 IO (io), B5 IO (io), B6 IO (io), B7 IO (io), B8 IO (io), B9 IO (io), B10 IO (io), B11 IO (io), C3 IO (io), C4 IO (io), C5 IO (io), C6 IO (io), C7 IO (io), C8 IO (io), C9 IO (io), C10 IO (io), C11 IO (io), C12 VCCIO (power), C26 VCCIO (power), D5 IO (io), D25 IO (io), D26 IO (io), E22 IO (io), E24 IO (io), E25 IO (io), E26 IO (io), F22 IO (io), F23 IO (io), F24 DATA6/IO (io), F25 IO (io), F26 IO (io), G22 IO (io), G23 DATA7/IO (io), G24 IO (io), G25 IO (io), G26 IO (io), H22 nWS/IO (io), H23 IO (io), H24 nRS/IO (io), H25 IO (io), H26 IO (io), J22 IO (io), J24 nCS/IO (io), J26 IO (io), K22 IO (io), K24 IO (io), K25 CS/IO (io), L22 IO (io), L23 DEV_CLRn/IO (io), L24 IO (io), L26 IO (io), M22 VCCIO (power), M23 IO (io), M24 IO (io), N26 CLK2 (in), P3 CLK1 (in), P5 VCCIO (power), R3 IO (io), R4 IO (io), R5 IO (io), T1 IO (io), T2 IO (io), T3 IO (io), T4 IO (io), T5 IO (io), U1 IO (io), U2 IO (io), U3 IO (io), U5 IO (io), V1 IO (io), V2 IO (io), V3 IO (io), V4 IO (io), V5 IO (io), W1 IO (io), W2 IO (io), W3 IO (io), W4 IO (io), W5 IO (io), Y1 IO (io), Y2 IO (io), Y3 IO (io), Y4 IO (io), Y5 IO (io)
part C pins: A12 nCEO (out), AE12 TCK (in), AE15 CONF_DONE (in), AF11 TMS (in), AF15 nSTATUS (in), B12 TRST (in), B15 TDO (out), M26 DATA0 (in), N25 DCLK (in), P1 MSEL0 (in), P2 MSEL1 (in), P25 TDI (in), P26 nCE (in), R1 nCONFIG (in)
part D pins: A14 VCCINT (power), AA1 NC, AA2 NC, AA3 NC, AA23 NC, AA24 NC, AA25 NC, AA26 NC, AB1 NC, AB2 NC, AB3 VCCINT (power), AB4 GNDINT (power), AB5 GNDINT (power), AB22 NC, AB23 NC, AB24 NC, AB25 VCCINT (power), AB26 NC, AC1 NC, AC2 NC, AC3 GNDINT (power), AC22 GNDINT (power), AC23 GNDINT (power), AC24 GNDINT (power), AC25 NC, AC26 NC, AD2 GNDINT (power), AD13 GNDINT (power), AD25 GNDINT (power), AE1 GNDINT (power), AE13 GNDINT (power), AE26 GNDINT (power), AF13 VCCINT (power), AF14 VCCINT (power), B1 GNDINT (power), B13 GNDINT (power), B14 VCCINT (power), B26 GNDINT (power), C2 GNDINT (power), C13 GNDINT (power), C25 GNDINT (power), D1 NC, D2 NC, D3 GNDINT (power), D4 GNDINT (power), D22 GNDINT (power), D23 GNDINT (power), D24 GNDINT (power), E1 VCCINT (power), E2 NC, E3 NC, E4 NC, E5 GNDINT (power), E23 VCCINT (power), H1 VCCINT (power), J23 VCCINT (power), J25 NC, K23 NC, K26 NC, L1 VCCINT (power), M25 VCCINT (power), N3 GNDINT (power), N4 GNDINT (power), N5 GNDINT (power), N22 GNDINT (power), N23 GNDINT (power), N24 GNDINT (power), P4 VCCINT (power), P23 VCC_CKLK (power), P24 GND_CKLK (power), R2 VCCINT (power), T22 VCCINT (power), U4 VCCINT (power), Y26 VCCINT (power)

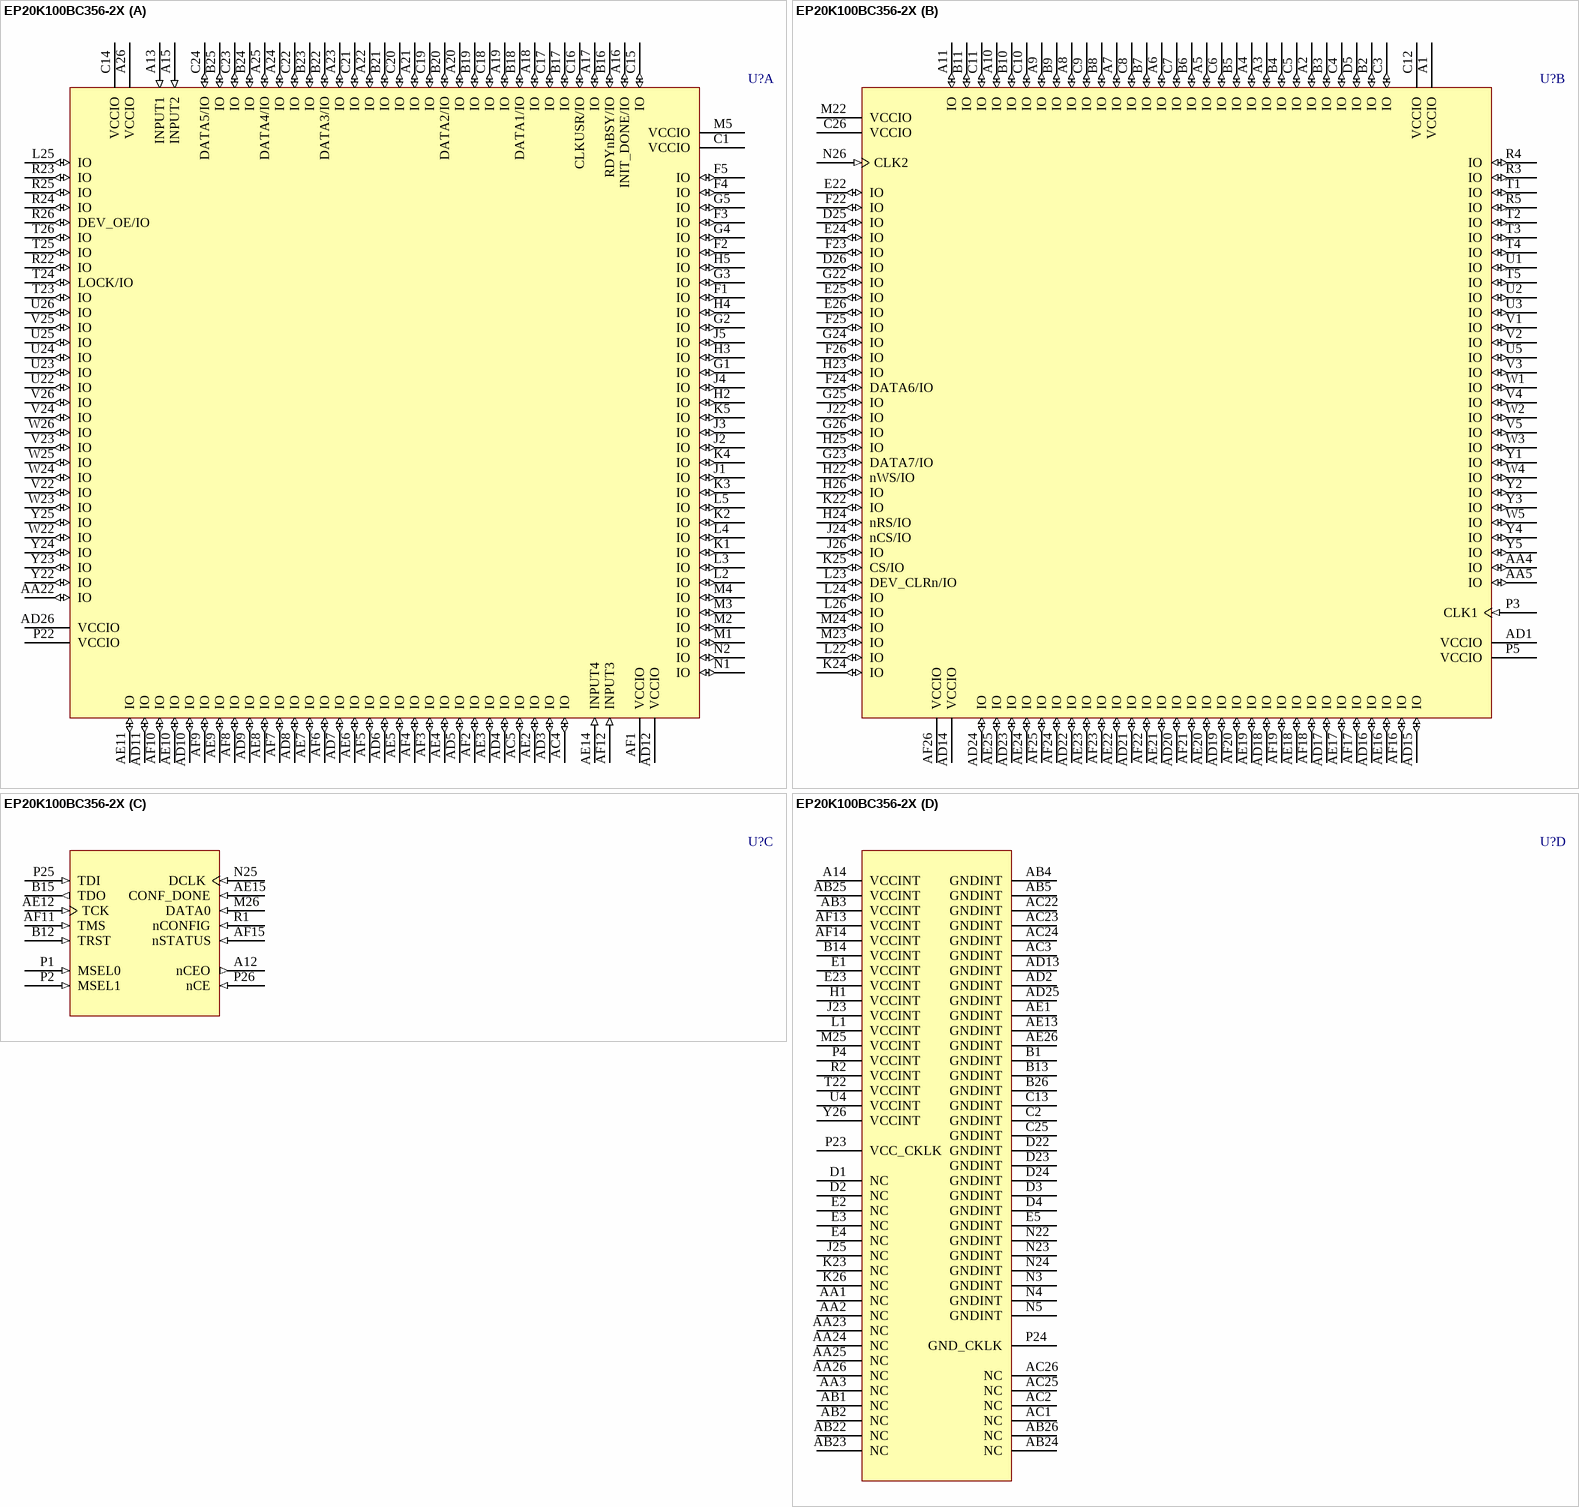
[diagram p4: symbol EP20K100BC356-2X]

## EP20K100BC356-2X
designator U?
APEX 20K100 PLD with PLLs, 356-Pin BGA, Commercial Grade, Speed Grade 2; Published: 17-Jul-2002; LatestRevisionDate: 13-Apr-2006; LatestRevisionNote: IPC-7351 Footprint Added.; DatasheetVersion: ver5.1, Mar-2004; PackageVersion: ver14.2, Oct-2005; PackageReference: BGA356; Publisher: Altium Limited; PackageDescription: 356-Ball Ball Grid Array (BGA356); Code_JEDEC: MO-192-BAR-2; ComponentLink1Description: Manufacturer Link; ComponentLink1URL: http://www.altera.com/products/devices/apex/apx-index.html; ComponentLink2Description: Datasheet; ComponentLink2URL: http://www.altera.com/literature/ds/apex.pdf
footprint BGA356 (BGA, 356-Leads, Body 35x35mm, Pitch 1.27mm)
3D model EP20K100-BGA356 (356-Ball Ball Grid Array (BGA356))
part A pins: A13 INPUT1 (in), A15 INPUT2 (in), A16 INIT_DONE/IO (io), A17 IO (io), A18 IO (io), A19 IO (io), A20 IO (io), A21 IO (io), A22 IO (io), A23 IO (io), A24 IO (io), A25 DATA4/IO (io), A26 VCCIO (power), AA22 IO (io), AC4 IO (io), AC5 IO (io), AD3 IO (io), AD4 IO (io), AD5 IO (io), AD6 IO (io), AD7 IO (io), AD8 IO (io), AD9 IO (io), AD10 IO (io), AD11 IO (io), AD12 VCCIO (power), AD26 VCCIO (power), AE2 IO (io), AE3 IO (io), AE4 IO (io), AE5 IO (io), AE6 IO (io), AE7 IO (io), AE8 IO (io), AE9 IO (io), AE10 IO (io), AE11 IO (io), AE14 INPUT4 (in), AF1 VCCIO (power), AF2 IO (io), AF3 IO (io), AF4 IO (io), AF5 IO (io), AF6 IO (io), AF7 IO (io), AF8 IO (io), AF9 IO (io), AF10 IO (io), AF12 INPUT3 (in), B16 RDYnBSY/IO (io), B17 IO (io), B18 DATA1/IO (io), B19 IO (io), B20 DATA2/IO (io), B21 IO (io), B22 DATA3/IO (io), B23 IO (io), B24 IO (io), B25 IO (io), C1 VCCIO (power), C14 VCCIO (power), C15 IO (io), C16 CLKUSR/IO (io), C17 IO (io), C18 IO (io), C19 IO (io), C20 IO (io), C21 IO (io), C22 IO (io), C23 IO (io), C24 DATA5/IO (io), F1 IO (io), F2 IO (io), F3 IO (io), F4 IO (io), F5 IO (io), G1 IO (io), G2 IO (io), G3 IO (io), G4 IO (io), G5 IO (io), H2 IO (io), H3 IO (io), H4 IO (io), H5 IO (io), J1 IO (io), J2 IO (io), J3 IO (io), J4 IO (io), J5 IO (io), K1 IO (io), K2 IO (io), K3 IO (io), K4 IO (io), K5 IO (io), L2 IO (io), L3 IO (io), L4 IO (io), L5 IO (io), L25 IO (io), M1 IO (io), M2 IO (io), M3 IO (io), M4 IO (io), M5 VCCIO (power), N1 IO (io), N2 IO (io), P22 VCCIO (power), R22 IO (io), R23 IO (io), R24 IO (io), R25 IO (io), R26 DEV_OE/IO (io), T23 IO (io), T24 LOCK/IO (io), T25 IO (io), T26 IO (io), U22 IO (io), U23 IO (io), U24 IO (io), U25 IO (io), U26 IO (io), V22 IO (io), V23 IO (io), V24 IO (io), V25 IO (io), V26 IO (io), W22 IO (io), W23 IO (io), W24 IO (io), W25 IO (io), W26 IO (io), Y22 IO (io), Y23 IO (io), Y24 IO (io), Y25 IO (io)
part B pins: A1 VCCIO (power), A2 IO (io), A3 IO (io), A4 IO (io), A5 IO (io), A6 IO (io), A7 IO (io), A8 IO (io), A9 IO (io), A10 IO (io), A11 IO (io), AA4 IO (io), AA5 IO (io), AD1 VCCIO (power), AD14 VCCIO (power), AD15 IO (io), AD16 IO (io), AD17 IO (io), AD18 IO (io), AD19 IO (io), AD20 IO (io), AD21 IO (io), AD22 IO (io), AD23 IO (io), AD24 IO (io), AE16 IO (io), AE17 IO (io), AE18 IO (io), AE19 IO (io), AE20 IO (io), AE21 IO (io), AE22 IO (io), AE23 IO (io), AE24 IO (io), AE25 IO (io), AF16 IO (io), AF17 IO (io), AF18 IO (io), AF19 IO (io), AF20 IO (io), AF21 IO (io), AF22 IO (io), AF23 IO (io), AF24 IO (io), AF25 IO (io), AF26 VCCIO (power), B2 IO (io), B3 IO (io), B4 IO (io), B5 IO (io), B6 IO (io), B7 IO (io), B8 IO (io), B9 IO (io), B10 IO (io), B11 IO (io), C3 IO (io), C4 IO (io), C5 IO (io), C6 IO (io), C7 IO (io), C8 IO (io), C9 IO (io), C10 IO (io), C11 IO (io), C12 VCCIO (power), C26 VCCIO (power), D5 IO (io), D25 IO (io), D26 IO (io), E22 IO (io), E24 IO (io), E25 IO (io), E26 IO (io), F22 IO (io), F23 IO (io), F24 DATA6/IO (io), F25 IO (io), F26 IO (io), G22 IO (io), G23 DATA7/IO (io), G24 IO (io), G25 IO (io), G26 IO (io), H22 nWS/IO (io), H23 IO (io), H24 nRS/IO (io), H25 IO (io), H26 IO (io), J22 IO (io), J24 nCS/IO (io), J26 IO (io), K22 IO (io), K24 IO (io), K25 CS/IO (io), L22 IO (io), L23 DEV_CLRn/IO (io), L24 IO (io), L26 IO (io), M22 VCCIO (power), M23 IO (io), M24 IO (io), N26 CLK2 (in), P3 CLK1 (in), P5 VCCIO (power), R3 IO (io), R4 IO (io), R5 IO (io), T1 IO (io), T2 IO (io), T3 IO (io), T4 IO (io), T5 IO (io), U1 IO (io), U2 IO (io), U3 IO (io), U5 IO (io), V1 IO (io), V2 IO (io), V3 IO (io), V4 IO (io), V5 IO (io), W1 IO (io), W2 IO (io), W3 IO (io), W4 IO (io), W5 IO (io), Y1 IO (io), Y2 IO (io), Y3 IO (io), Y4 IO (io), Y5 IO (io)
part C pins: A12 nCEO (out), AE12 TCK (in), AE15 CONF_DONE (in), AF11 TMS (in), AF15 nSTATUS (in), B12 TRST (in), B15 TDO (out), M26 DATA0 (in), N25 DCLK (in), P1 MSEL0 (in), P2 MSEL1 (in), P25 TDI (in), P26 nCE (in), R1 nCONFIG (in)
part D pins: A14 VCCINT (power), AA1 NC, AA2 NC, AA3 NC, AA23 NC, AA24 NC, AA25 NC, AA26 NC, AB1 NC, AB2 NC, AB3 VCCINT (power), AB4 GNDINT (power), AB5 GNDINT (power), AB22 NC, AB23 NC, AB24 NC, AB25 VCCINT (power), AB26 NC, AC1 NC, AC2 NC, AC3 GNDINT (power), AC22 GNDINT (power), AC23 GNDINT (power), AC24 GNDINT (power), AC25 NC, AC26 NC, AD2 GNDINT (power), AD13 GNDINT (power), AD25 GNDINT (power), AE1 GNDINT (power), AE13 GNDINT (power), AE26 GNDINT (power), AF13 VCCINT (power), AF14 VCCINT (power), B1 GNDINT (power), B13 GNDINT (power), B14 VCCINT (power), B26 GNDINT (power), C2 GNDINT (power), C13 GNDINT (power), C25 GNDINT (power), D1 NC, D2 NC, D3 GNDINT (power), D4 GNDINT (power), D22 GNDINT (power), D23 GNDINT (power), D24 GNDINT (power), E1 VCCINT (power), E2 NC, E3 NC, E4 NC, E5 GNDINT (power), E23 VCCINT (power), H1 VCCINT (power), J23 VCCINT (power), J25 NC, K23 NC, K26 NC, L1 VCCINT (power), M25 VCCINT (power), N3 GNDINT (power), N4 GNDINT (power), N5 GNDINT (power), N22 GNDINT (power), N23 GNDINT (power), N24 GNDINT (power), P4 VCCINT (power), P23 VCC_CKLK (power), P24 GND_CKLK (power), R2 VCCINT (power), T22 VCCINT (power), U4 VCCINT (power), Y26 VCCINT (power)

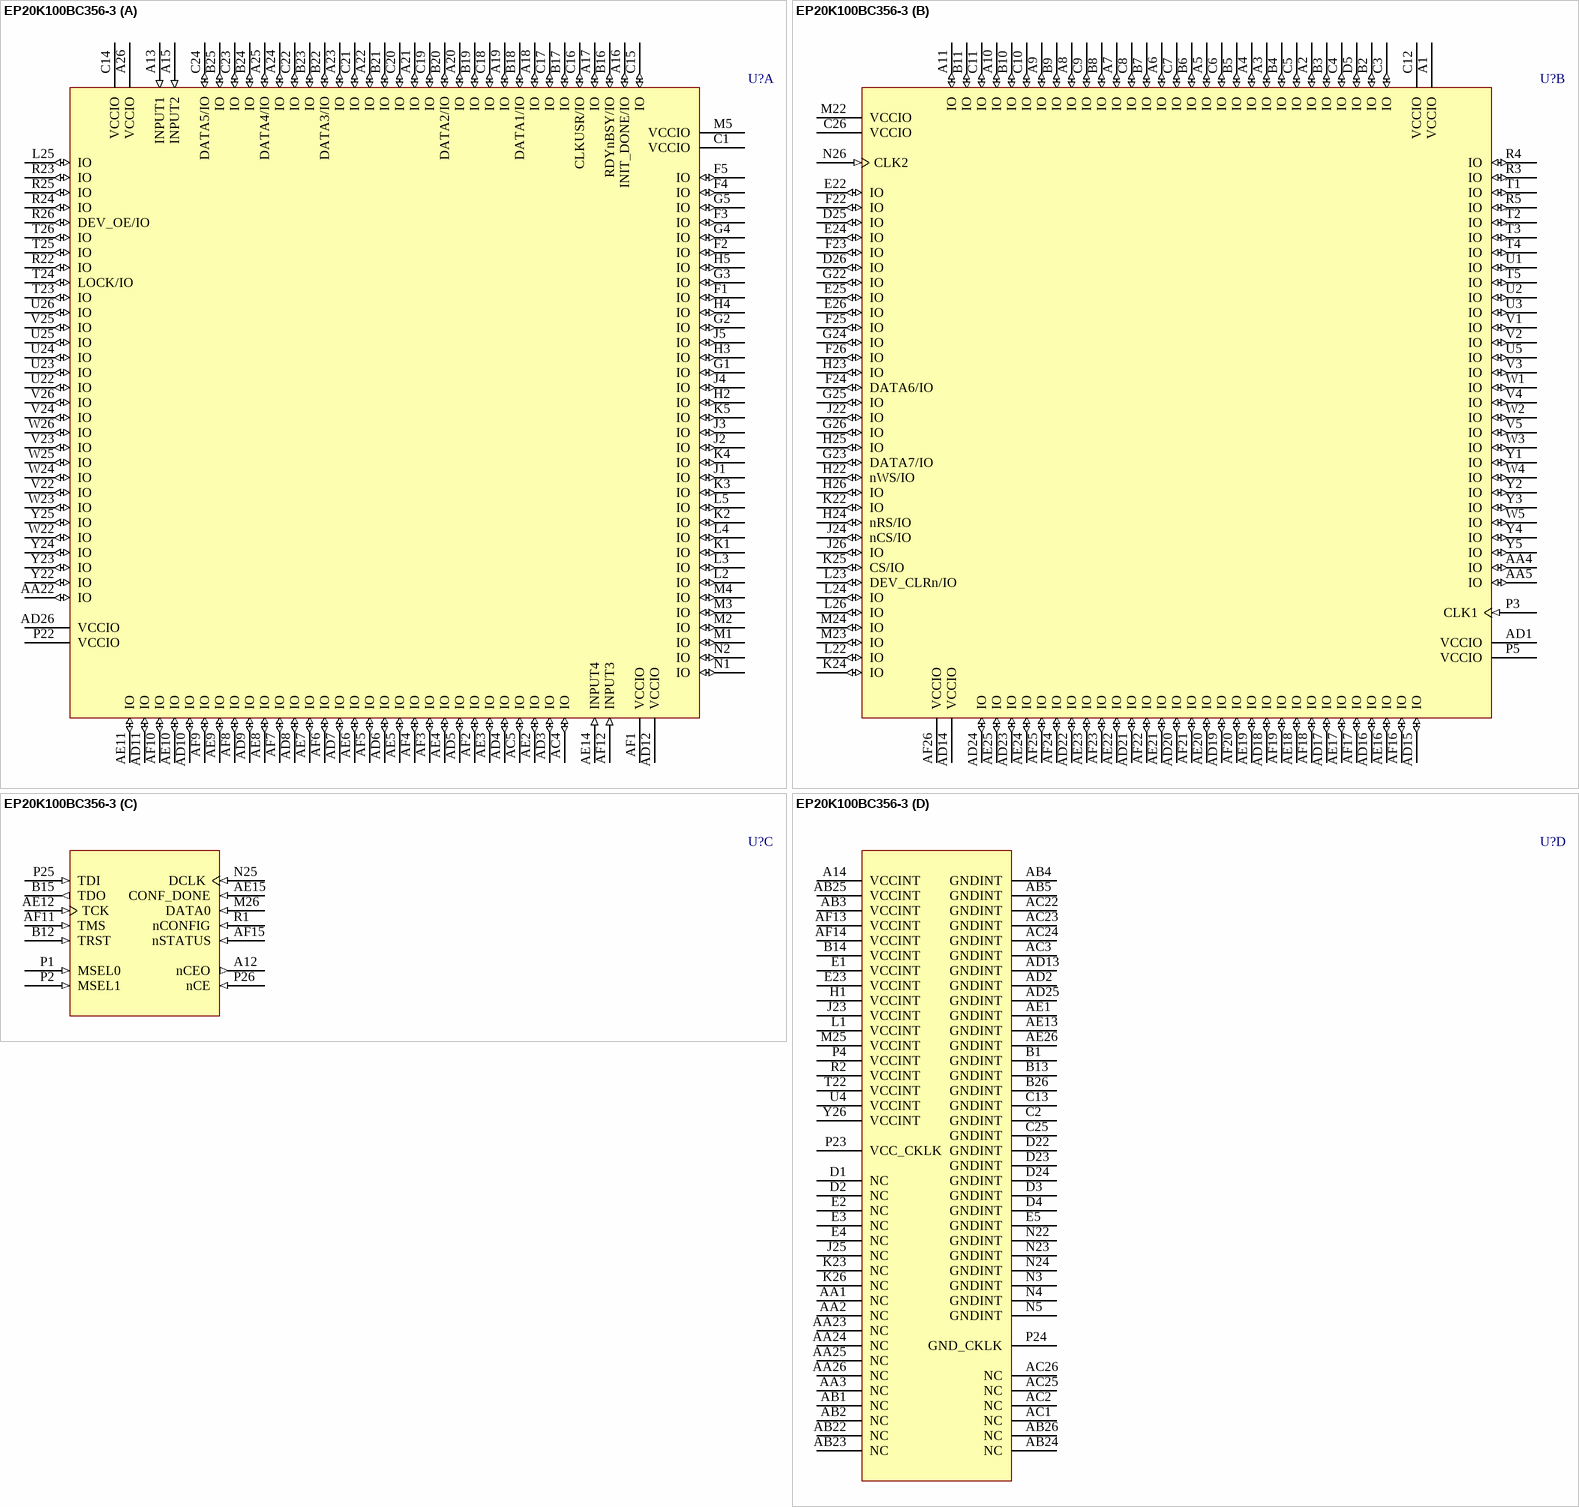
[diagram p5: symbol EP20K100BC356-3]

## EP20K100BC356-3
designator U?
APEX 20K100 PLD, 356-Pin BGA, Commercial Grade, Speed Grade 3; Published: 17-Jul-2002; LatestRevisionDate: 13-Apr-2006; LatestRevisionNote: IPC-7351 Footprint Added.; DatasheetVersion: ver5.1, Mar-2004; PackageVersion: ver14.2, Oct-2005; PackageReference: BGA356; Publisher: Altium Limited; PackageDescription: 356-Ball Ball Grid Array (BGA356); Code_JEDEC: MO-192-BAR-2; ComponentLink1Description: Manufacturer Link; ComponentLink1URL: http://www.altera.com/products/devices/apex/apx-index.html; ComponentLink2Description: Datasheet; ComponentLink2URL: http://www.altera.com/literature/ds/apex.pdf
footprint BGA356 (BGA, 356-Leads, Body 35x35mm, Pitch 1.27mm)
3D model EP20K100-BGA356 (356-Ball Ball Grid Array (BGA356))
part A pins: A13 INPUT1 (in), A15 INPUT2 (in), A16 INIT_DONE/IO (io), A17 IO (io), A18 IO (io), A19 IO (io), A20 IO (io), A21 IO (io), A22 IO (io), A23 IO (io), A24 IO (io), A25 DATA4/IO (io), A26 VCCIO (power), AA22 IO (io), AC4 IO (io), AC5 IO (io), AD3 IO (io), AD4 IO (io), AD5 IO (io), AD6 IO (io), AD7 IO (io), AD8 IO (io), AD9 IO (io), AD10 IO (io), AD11 IO (io), AD12 VCCIO (power), AD26 VCCIO (power), AE2 IO (io), AE3 IO (io), AE4 IO (io), AE5 IO (io), AE6 IO (io), AE7 IO (io), AE8 IO (io), AE9 IO (io), AE10 IO (io), AE11 IO (io), AE14 INPUT4 (in), AF1 VCCIO (power), AF2 IO (io), AF3 IO (io), AF4 IO (io), AF5 IO (io), AF6 IO (io), AF7 IO (io), AF8 IO (io), AF9 IO (io), AF10 IO (io), AF12 INPUT3 (in), B16 RDYnBSY/IO (io), B17 IO (io), B18 DATA1/IO (io), B19 IO (io), B20 DATA2/IO (io), B21 IO (io), B22 DATA3/IO (io), B23 IO (io), B24 IO (io), B25 IO (io), C1 VCCIO (power), C14 VCCIO (power), C15 IO (io), C16 CLKUSR/IO (io), C17 IO (io), C18 IO (io), C19 IO (io), C20 IO (io), C21 IO (io), C22 IO (io), C23 IO (io), C24 DATA5/IO (io), F1 IO (io), F2 IO (io), F3 IO (io), F4 IO (io), F5 IO (io), G1 IO (io), G2 IO (io), G3 IO (io), G4 IO (io), G5 IO (io), H2 IO (io), H3 IO (io), H4 IO (io), H5 IO (io), J1 IO (io), J2 IO (io), J3 IO (io), J4 IO (io), J5 IO (io), K1 IO (io), K2 IO (io), K3 IO (io), K4 IO (io), K5 IO (io), L2 IO (io), L3 IO (io), L4 IO (io), L5 IO (io), L25 IO (io), M1 IO (io), M2 IO (io), M3 IO (io), M4 IO (io), M5 VCCIO (power), N1 IO (io), N2 IO (io), P22 VCCIO (power), R22 IO (io), R23 IO (io), R24 IO (io), R25 IO (io), R26 DEV_OE/IO (io), T23 IO (io), T24 LOCK/IO (io), T25 IO (io), T26 IO (io), U22 IO (io), U23 IO (io), U24 IO (io), U25 IO (io), U26 IO (io), V22 IO (io), V23 IO (io), V24 IO (io), V25 IO (io), V26 IO (io), W22 IO (io), W23 IO (io), W24 IO (io), W25 IO (io), W26 IO (io), Y22 IO (io), Y23 IO (io), Y24 IO (io), Y25 IO (io)
part B pins: A1 VCCIO (power), A2 IO (io), A3 IO (io), A4 IO (io), A5 IO (io), A6 IO (io), A7 IO (io), A8 IO (io), A9 IO (io), A10 IO (io), A11 IO (io), AA4 IO (io), AA5 IO (io), AD1 VCCIO (power), AD14 VCCIO (power), AD15 IO (io), AD16 IO (io), AD17 IO (io), AD18 IO (io), AD19 IO (io), AD20 IO (io), AD21 IO (io), AD22 IO (io), AD23 IO (io), AD24 IO (io), AE16 IO (io), AE17 IO (io), AE18 IO (io), AE19 IO (io), AE20 IO (io), AE21 IO (io), AE22 IO (io), AE23 IO (io), AE24 IO (io), AE25 IO (io), AF16 IO (io), AF17 IO (io), AF18 IO (io), AF19 IO (io), AF20 IO (io), AF21 IO (io), AF22 IO (io), AF23 IO (io), AF24 IO (io), AF25 IO (io), AF26 VCCIO (power), B2 IO (io), B3 IO (io), B4 IO (io), B5 IO (io), B6 IO (io), B7 IO (io), B8 IO (io), B9 IO (io), B10 IO (io), B11 IO (io), C3 IO (io), C4 IO (io), C5 IO (io), C6 IO (io), C7 IO (io), C8 IO (io), C9 IO (io), C10 IO (io), C11 IO (io), C12 VCCIO (power), C26 VCCIO (power), D5 IO (io), D25 IO (io), D26 IO (io), E22 IO (io), E24 IO (io), E25 IO (io), E26 IO (io), F22 IO (io), F23 IO (io), F24 DATA6/IO (io), F25 IO (io), F26 IO (io), G22 IO (io), G23 DATA7/IO (io), G24 IO (io), G25 IO (io), G26 IO (io), H22 nWS/IO (io), H23 IO (io), H24 nRS/IO (io), H25 IO (io), H26 IO (io), J22 IO (io), J24 nCS/IO (io), J26 IO (io), K22 IO (io), K24 IO (io), K25 CS/IO (io), L22 IO (io), L23 DEV_CLRn/IO (io), L24 IO (io), L26 IO (io), M22 VCCIO (power), M23 IO (io), M24 IO (io), N26 CLK2 (in), P3 CLK1 (in), P5 VCCIO (power), R3 IO (io), R4 IO (io), R5 IO (io), T1 IO (io), T2 IO (io), T3 IO (io), T4 IO (io), T5 IO (io), U1 IO (io), U2 IO (io), U3 IO (io), U5 IO (io), V1 IO (io), V2 IO (io), V3 IO (io), V4 IO (io), V5 IO (io), W1 IO (io), W2 IO (io), W3 IO (io), W4 IO (io), W5 IO (io), Y1 IO (io), Y2 IO (io), Y3 IO (io), Y4 IO (io), Y5 IO (io)
part C pins: A12 nCEO (out), AE12 TCK (in), AE15 CONF_DONE (in), AF11 TMS (in), AF15 nSTATUS (in), B12 TRST (in), B15 TDO (out), M26 DATA0 (in), N25 DCLK (in), P1 MSEL0 (in), P2 MSEL1 (in), P25 TDI (in), P26 nCE (in), R1 nCONFIG (in)
part D pins: A14 VCCINT (power), AA1 NC, AA2 NC, AA3 NC, AA23 NC, AA24 NC, AA25 NC, AA26 NC, AB1 NC, AB2 NC, AB3 VCCINT (power), AB4 GNDINT (power), AB5 GNDINT (power), AB22 NC, AB23 NC, AB24 NC, AB25 VCCINT (power), AB26 NC, AC1 NC, AC2 NC, AC3 GNDINT (power), AC22 GNDINT (power), AC23 GNDINT (power), AC24 GNDINT (power), AC25 NC, AC26 NC, AD2 GNDINT (power), AD13 GNDINT (power), AD25 GNDINT (power), AE1 GNDINT (power), AE13 GNDINT (power), AE26 GNDINT (power), AF13 VCCINT (power), AF14 VCCINT (power), B1 GNDINT (power), B13 GNDINT (power), B14 VCCINT (power), B26 GNDINT (power), C2 GNDINT (power), C13 GNDINT (power), C25 GNDINT (power), D1 NC, D2 NC, D3 GNDINT (power), D4 GNDINT (power), D22 GNDINT (power), D23 GNDINT (power), D24 GNDINT (power), E1 VCCINT (power), E2 NC, E3 NC, E4 NC, E5 GNDINT (power), E23 VCCINT (power), H1 VCCINT (power), J23 VCCINT (power), J25 NC, K23 NC, K26 NC, L1 VCCINT (power), M25 VCCINT (power), N3 GNDINT (power), N4 GNDINT (power), N5 GNDINT (power), N22 GNDINT (power), N23 GNDINT (power), N24 GNDINT (power), P4 VCCINT (power), P23 VCC_CKLK (power), P24 GND_CKLK (power), R2 VCCINT (power), T22 VCCINT (power), U4 VCCINT (power), Y26 VCCINT (power)

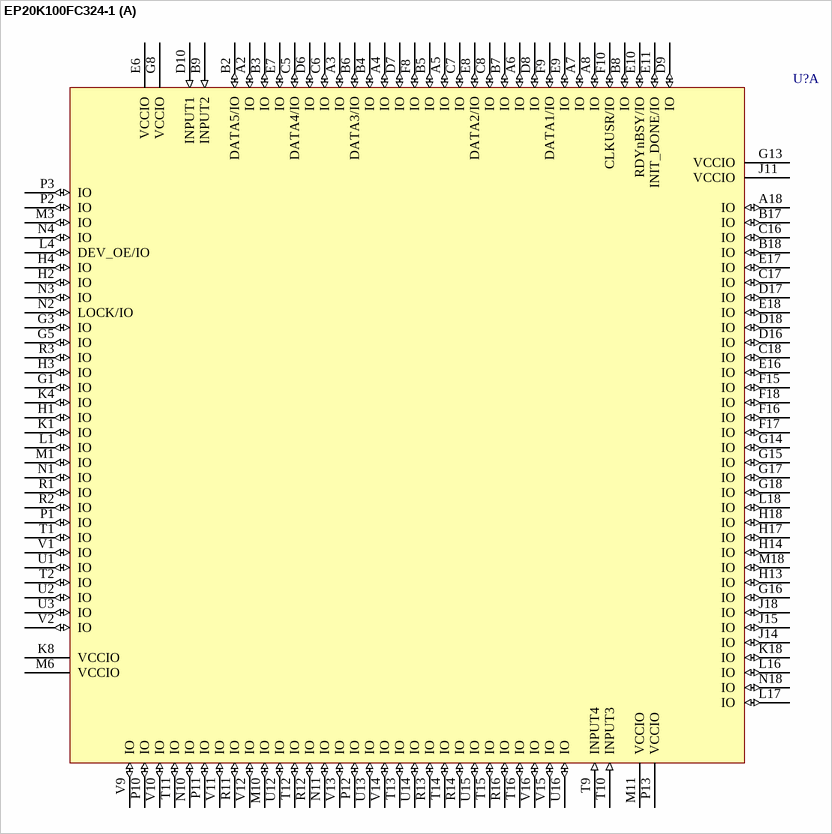
[diagram p6: symbol EP20K100FC324-1]

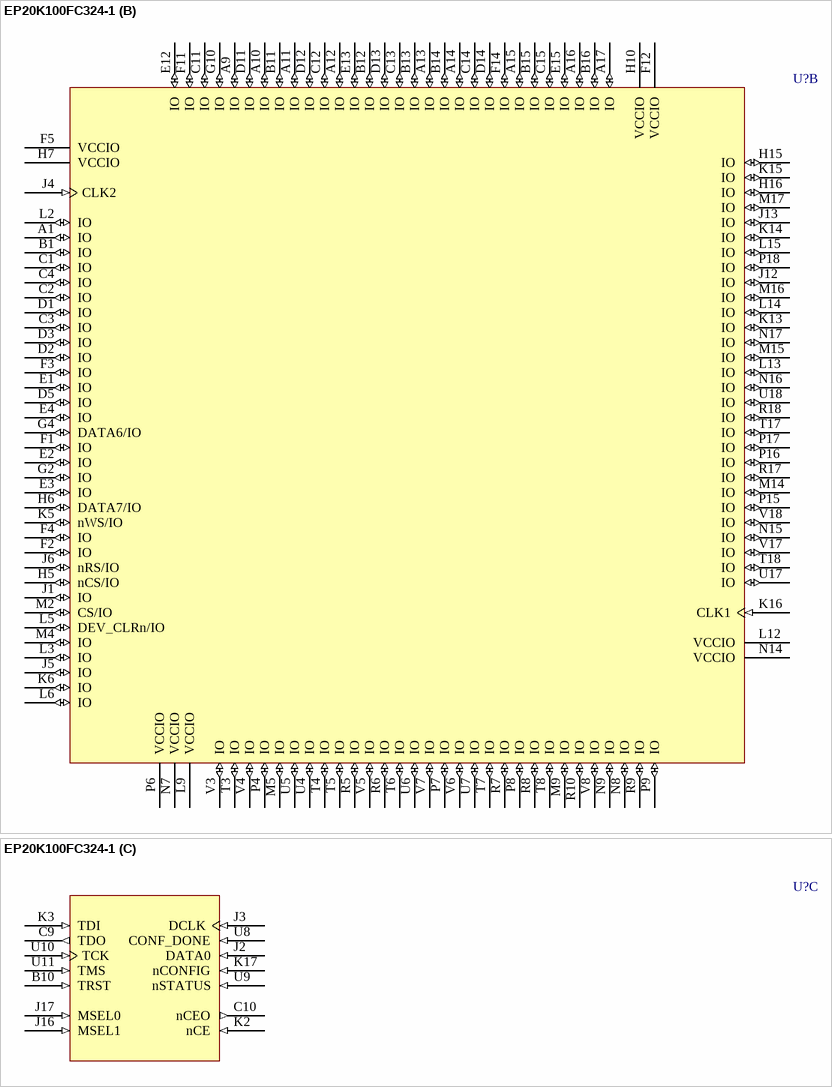
[diagram p7: symbol EP20K100FC324-1]

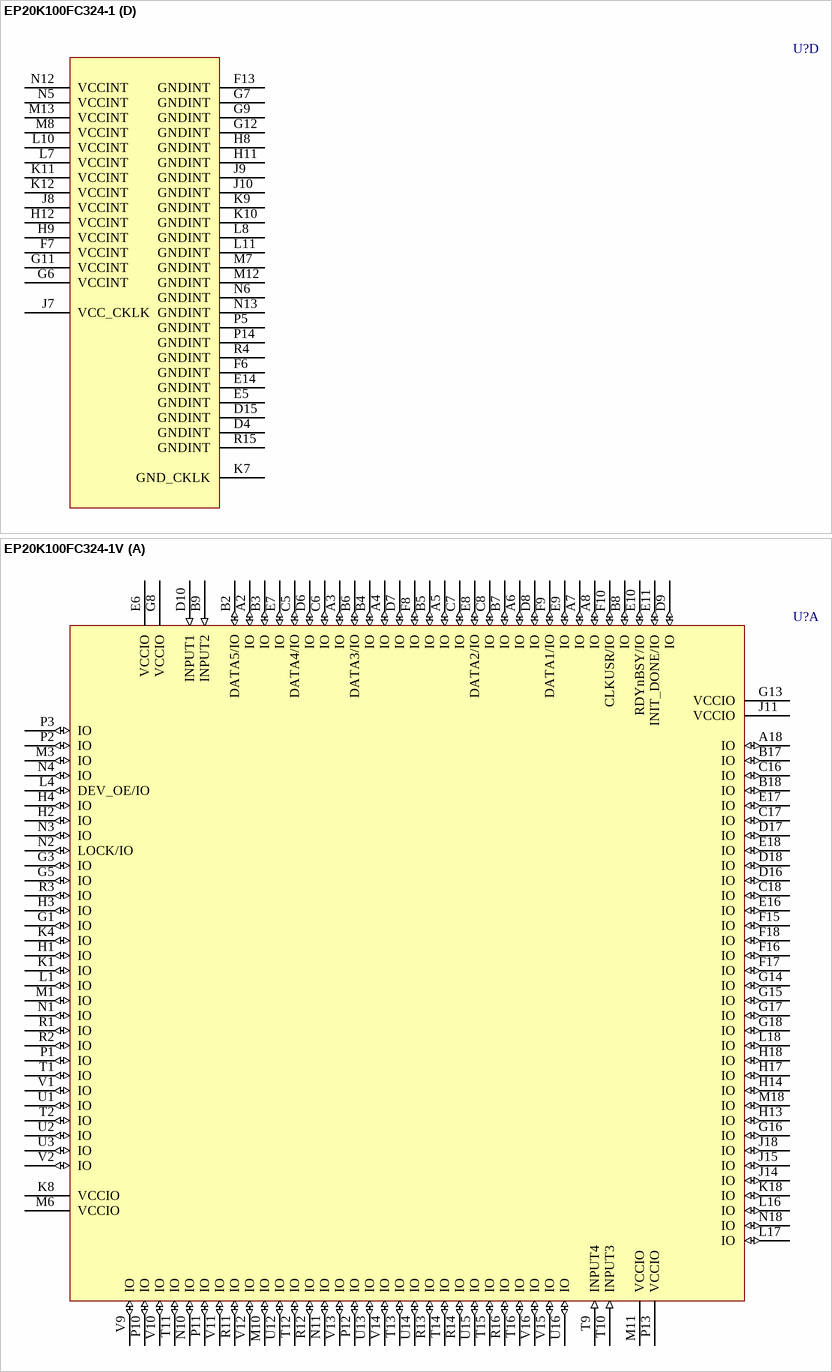
[diagram p8: symbols EP20K100FC324-1 to EP20K100FC324-1V]

## EP20K100FC324-1
designator U?
APEX 20K100 PLD, 324-Pin FBGA, Commercial Grade, Speed Grade 1; Published: 17-Jul-2002; LatestRevisionDate: 13-Apr-2006; LatestRevisionNote: IPC-7351 Footprint Added.; DatasheetVersion: ver5.1, Mar-2004; PackageVersion: ver16.0, Dec-2009; PackageReference: FBGA324; Publisher: Altium Limited; PackageDescription: 324-Ball FineLine Ball Grid Array (FBGA324) - Wire Bond; Supplier 1: Digi-Key; Supplier Part Number 1: EP20K100FC324-1-ND; Code_JEDEC: MS-034-AAG-1; Code_IPC: BGA100P18X18-324; ComponentLink1Description: Manufacturer Link; ComponentLink1URL: http://www.altera.com/products/devices/apex/apx-index.html; ComponentLink2Description: Datasheet; ComponentLink2URL: http://www.altera.com/literature/ds/apex.pdf
footprint FBGA324 (BGA, 324-Leads, Body 19x19mm, Pitch 1mm)
3D model EP20K100-FBGA324 (324-Ball FineLine Ball Grid Array (FBGA324) - Wire Bond)
part A pins: A2 IO (io), A3 IO (io), A4 IO (io), A5 IO (io), A6 IO (io), A7 IO (io), A8 IO (io), A18 IO (io), B2 DATA5/IO (io), B3 IO (io), B4 IO (io), B5 IO (io), B6 DATA3/IO (io), B7 IO (io), B8 IO (io), B9 INPUT2 (in), B17 IO (io), B18 IO (io), C5 DATA4/IO (io), C6 IO (io), C7 IO (io), C8 IO (io), C16 IO (io), C17 IO (io), C18 IO (io), D6 IO (io), D7 IO (io), D8 IO (io), D9 IO (io), D10 INPUT1 (in), D16 IO (io), D17 IO (io), D18 IO (io), E6 VCCIO (power), E7 IO (io), E8 DATA2/IO (io), E9 IO (io), E10 RDYnBSY/IO (io), E11 INIT_DONE/IO (io), E16 IO (io), E17 IO (io), E18 IO (io), F8 IO (io), F9 DATA1/IO (io), F10 CLKUSR/IO (io), F15 IO (io), F16 IO (io), F17 IO (io), F18 IO (io), G1 IO (io), G3 IO (io), G5 IO (io), G8 VCCIO (power), G13 VCCIO (power), G14 IO (io), G15 IO (io), G16 IO (io), G17 IO (io), G18 IO (io), H1 IO (io), H2 IO (io), H3 IO (io), H4 IO (io), H13 IO (io), H14 IO (io), H17 IO (io), H18 IO (io), J11 VCCIO (power), J14 IO (io), J15 IO (io), J18 IO (io), K1 IO (io), K4 IO (io), K8 VCCIO (power), K18 IO (io), L1 IO (io), L4 DEV_OE/IO (io), L16 IO (io), L17 IO (io), L18 IO (io), M1 IO (io), M3 IO (io), M6 VCCIO (power), M10 IO (io), M11 VCCIO (power), M18 IO (io), N1 IO (io), N2 LOCK/IO (io), N3 IO (io), N4 IO (io), N10 IO (io), N11 IO (io), N18 IO (io), P1 IO (io), P2 IO (io), P3 IO (io), P10 IO (io), P11 IO (io), P12 IO (io), P13 VCCIO (power), R1 IO (io), R2 IO (io), R3 IO (io), R11 IO (io), R12 IO (io), R13 IO (io), R14 IO (io), R16 IO (io), T1 IO (io), T2 IO (io), T9 INPUT4 (in), T10 INPUT3 (in), T11 IO (io), T12 IO (io), T13 IO (io), T14 IO (io), T15 IO (io), T16 IO (io), U1 IO (io), U2 IO (io), U3 IO (io), U12 IO (io), U13 IO (io), U14 IO (io), U15 IO (io), U16 IO (io), V1 IO (io), V2 IO (io), V9 IO (io), V10 IO (io), V11 IO (io), V12 IO (io), V13 IO (io), V14 IO (io), V15 IO (io), V16 IO (io)
part B pins: A1 IO (io), A9 IO (io), A10 IO (io), A11 IO (io), A12 IO (io), A13 IO (io), A14 IO (io), A15 IO (io), A16 IO (io), A17 IO (io), B1 IO (io), B11 IO (io), B12 IO (io), B13 IO (io), B14 IO (io), B15 IO (io), B16 IO (io), C1 IO (io), C2 IO (io), C3 IO (io), C4 IO (io), C11 IO (io), C12 IO (io), C13 IO (io), C14 IO (io), C15 IO (io), D1 IO (io), D2 IO (io), D3 IO (io), D5 IO (io), D11 IO (io), D12 IO (io), D13 IO (io), D14 IO (io), E1 IO (io), E2 IO (io), E3 IO (io), E4 IO (io), E12 IO (io), E13 IO (io), E15 IO (io), F1 IO (io), F2 IO (io), F3 IO (io), F4 IO (io), F5 VCCIO (power), F11 IO (io), F12 VCCIO (power), F14 IO (io), G2 IO (io), G4 DATA6/IO (io), G10 IO (io), H5 nCS/IO (io), H6 DATA7/IO (io), H7 VCCIO (power), H10 VCCIO (power), H15 IO (io), H16 IO (io), J1 IO (io), J4 CLK2 (in), J5 IO (io), J6 nRS/IO (io), J12 IO (io), J13 IO (io), K5 nWS/IO (io), K6 IO (io), K13 IO (io), K14 IO (io), K15 IO (io), K16 CLK1 (in), L2 IO (io), L3 IO (io), L5 DEV_CLRn/IO (io), L6 IO (io), L9 VCCIO (power), L12 VCCIO (power), L13 IO (io), L14 IO (io), L15 IO (io), M2 CS/IO (io), M4 IO (io), M5 IO (io), M9 IO (io), M14 IO (io), M15 IO (io), M16 IO (io), M17 IO (io), N7 VCCIO (power), N8 IO (io), N9 IO (io), N14 VCCIO (power), N15 IO (io), N16 IO (io), N17 IO (io), P4 IO (io), P6 VCCIO (power), P7 IO (io), P8 IO (io), P9 IO (io), P15 IO (io), P16 IO (io), P17 IO (io), P18 IO (io), R5 IO (io), R6 IO (io), R7 IO (io), R8 IO (io), R9 IO (io), R10 IO (io), R17 IO (io), R18 IO (io), T3 IO (io), T4 IO (io), T5 IO (io), T6 IO (io), T7 IO (io), T8 IO (io), T17 IO (io), T18 IO (io), U4 IO (io), U5 IO (io), U6 IO (io), U7 IO (io), U17 IO (io), U18 IO (io), V3 IO (io), V4 IO (io), V5 IO (io), V6 IO (io), V7 IO (io), V8 IO (io), V17 IO (io), V18 IO (io)
part C pins: B10 TRST (in), C9 TDO (out), C10 nCEO (out), J2 DATA0 (in), J3 DCLK (in), J16 MSEL1 (in), J17 MSEL0 (in), K2 nCE (in), K3 TDI (in), K17 nCONFIG (in), U8 CONF_DONE (in), U9 nSTATUS (in), U10 TCK (in), U11 TMS (in)
part D pins: D4 GNDINT (power), D15 GNDINT (power), E5 GNDINT (power), E14 GNDINT (power), F6 GNDINT (power), F7 VCCINT (power), F13 GNDINT (power), G6 VCCINT (power), G7 GNDINT (power), G9 GNDINT (power), G11 VCCINT (power), G12 GNDINT (power), H8 GNDINT (power), H9 VCCINT (power), H11 GNDINT (power), H12 VCCINT (power), J7 VCC_CKLK (power), J8 VCCINT (power), J9 GNDINT (power), J10 GNDINT (power), K7 GND_CKLK (power), K9 GNDINT (power), K10 GNDINT (power), K11 VCCINT (power), K12 VCCINT (power), L7 VCCINT (power), L8 GNDINT (power), L10 VCCINT (power), L11 GNDINT (power), M7 GNDINT (power), M8 VCCINT (power), M12 GNDINT (power), M13 VCCINT (power), N5 VCCINT (power), N6 GNDINT (power), N12 VCCINT (power), N13 GNDINT (power), P5 GNDINT (power), P14 GNDINT (power), R4 GNDINT (power), R15 GNDINT (power)

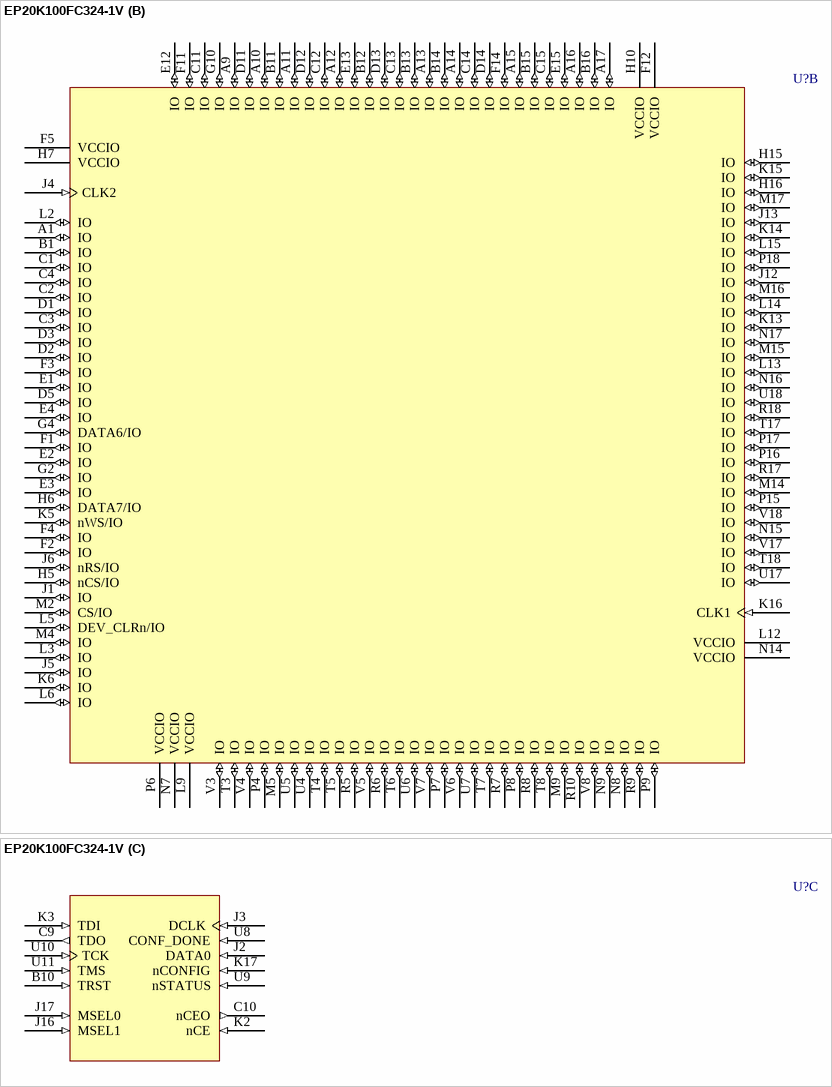
[diagram p9: symbol EP20K100FC324-1V]

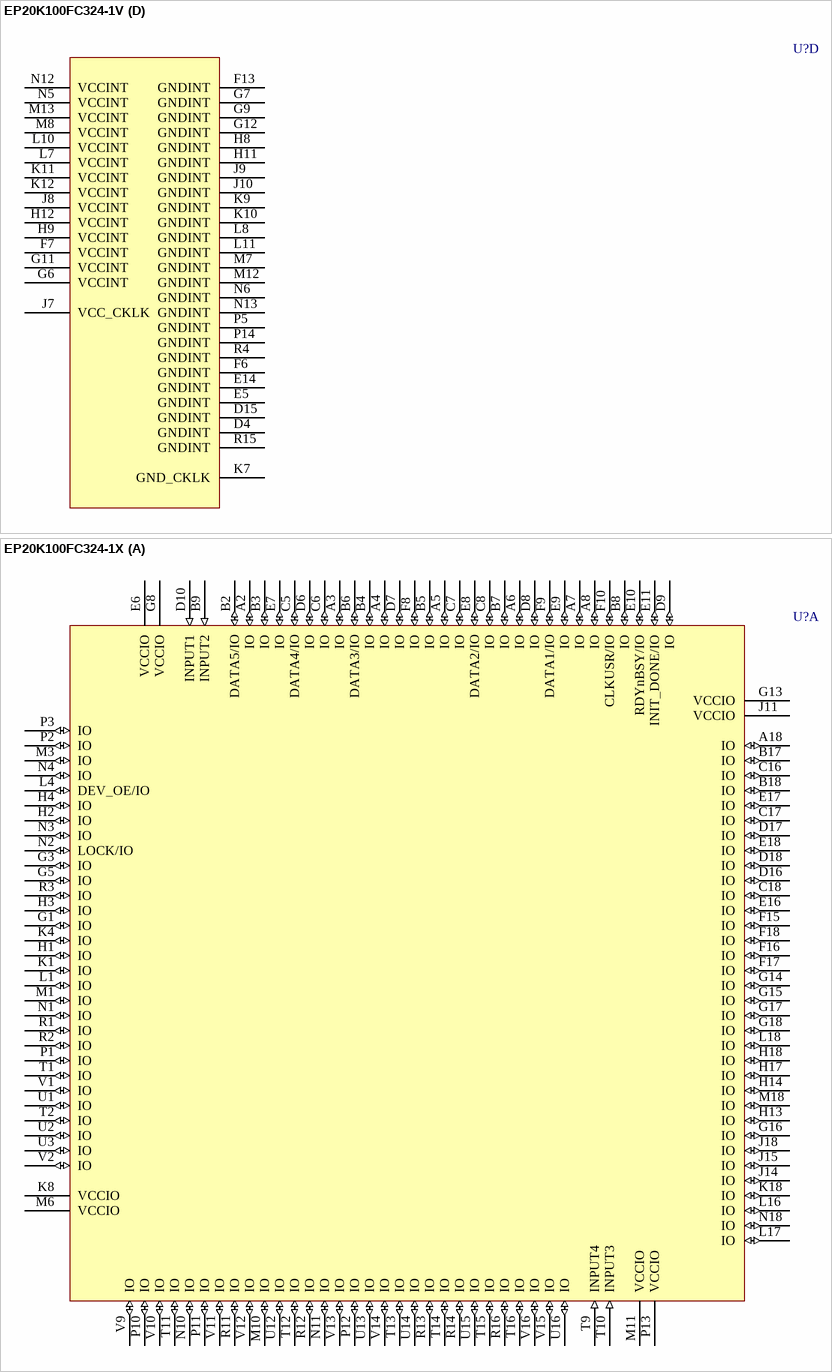
[diagram p10: symbols EP20K100FC324-1V to EP20K100FC324-1X]

## EP20K100FC324-1V
designator U?
APEX 20K100 PLD with 5 V tolerant inputs, 324-Pin FBGA, Commercial Grade, Speed Grade 1; ComponentAvailability: Last order accepted - 22-Jul-2005; Published: 17-Jul-2002; LatestRevisionDate: 13-Apr-2006; LatestRevisionNote: IPC-7351 Footprint Added.; DatasheetVersion: ver5.1, Mar-2004; PackageVersion: ver16.0, Dec-2009; PackageReference: FBGA324; Publisher: Altium Limited; PackageDescription: 324-Ball FineLine Ball Grid Array (FBGA324) - Wire Bond; Supplier 1: Digi-Key; Supplier Part Number 1: EP20K100FC324-1V-ND; Code_JEDEC: MS-034-AAG-1; Code_IPC: BGA100P18X18-324; ComponentLink1Description: Manufacturer Link; ComponentLink1URL: http://www.altera.com/products/devices/apex/apx-index.html; ComponentLink2Description: Datasheet; ComponentLink2URL: http://www.altera.com/literature/ds/apex.pdf; ComponentLink3Description: Discontinuation Notice; ComponentLink3URL: http://www.altera.com/literature/pcn/pdn0401.pdf
footprint FBGA324 (BGA, 324-Leads, Body 19x19mm, Pitch 1mm)
3D model EP20K100-FBGA324 (324-Ball FineLine Ball Grid Array (FBGA324) - Wire Bond)
part A pins: A2 IO (io), A3 IO (io), A4 IO (io), A5 IO (io), A6 IO (io), A7 IO (io), A8 IO (io), A18 IO (io), B2 DATA5/IO (io), B3 IO (io), B4 IO (io), B5 IO (io), B6 DATA3/IO (io), B7 IO (io), B8 IO (io), B9 INPUT2 (in), B17 IO (io), B18 IO (io), C5 DATA4/IO (io), C6 IO (io), C7 IO (io), C8 IO (io), C16 IO (io), C17 IO (io), C18 IO (io), D6 IO (io), D7 IO (io), D8 IO (io), D9 IO (io), D10 INPUT1 (in), D16 IO (io), D17 IO (io), D18 IO (io), E6 VCCIO (power), E7 IO (io), E8 DATA2/IO (io), E9 IO (io), E10 RDYnBSY/IO (io), E11 INIT_DONE/IO (io), E16 IO (io), E17 IO (io), E18 IO (io), F8 IO (io), F9 DATA1/IO (io), F10 CLKUSR/IO (io), F15 IO (io), F16 IO (io), F17 IO (io), F18 IO (io), G1 IO (io), G3 IO (io), G5 IO (io), G8 VCCIO (power), G13 VCCIO (power), G14 IO (io), G15 IO (io), G16 IO (io), G17 IO (io), G18 IO (io), H1 IO (io), H2 IO (io), H3 IO (io), H4 IO (io), H13 IO (io), H14 IO (io), H17 IO (io), H18 IO (io), J11 VCCIO (power), J14 IO (io), J15 IO (io), J18 IO (io), K1 IO (io), K4 IO (io), K8 VCCIO (power), K18 IO (io), L1 IO (io), L4 DEV_OE/IO (io), L16 IO (io), L17 IO (io), L18 IO (io), M1 IO (io), M3 IO (io), M6 VCCIO (power), M10 IO (io), M11 VCCIO (power), M18 IO (io), N1 IO (io), N2 LOCK/IO (io), N3 IO (io), N4 IO (io), N10 IO (io), N11 IO (io), N18 IO (io), P1 IO (io), P2 IO (io), P3 IO (io), P10 IO (io), P11 IO (io), P12 IO (io), P13 VCCIO (power), R1 IO (io), R2 IO (io), R3 IO (io), R11 IO (io), R12 IO (io), R13 IO (io), R14 IO (io), R16 IO (io), T1 IO (io), T2 IO (io), T9 INPUT4 (in), T10 INPUT3 (in), T11 IO (io), T12 IO (io), T13 IO (io), T14 IO (io), T15 IO (io), T16 IO (io), U1 IO (io), U2 IO (io), U3 IO (io), U12 IO (io), U13 IO (io), U14 IO (io), U15 IO (io), U16 IO (io), V1 IO (io), V2 IO (io), V9 IO (io), V10 IO (io), V11 IO (io), V12 IO (io), V13 IO (io), V14 IO (io), V15 IO (io), V16 IO (io)
part B pins: A1 IO (io), A9 IO (io), A10 IO (io), A11 IO (io), A12 IO (io), A13 IO (io), A14 IO (io), A15 IO (io), A16 IO (io), A17 IO (io), B1 IO (io), B11 IO (io), B12 IO (io), B13 IO (io), B14 IO (io), B15 IO (io), B16 IO (io), C1 IO (io), C2 IO (io), C3 IO (io), C4 IO (io), C11 IO (io), C12 IO (io), C13 IO (io), C14 IO (io), C15 IO (io), D1 IO (io), D2 IO (io), D3 IO (io), D5 IO (io), D11 IO (io), D12 IO (io), D13 IO (io), D14 IO (io), E1 IO (io), E2 IO (io), E3 IO (io), E4 IO (io), E12 IO (io), E13 IO (io), E15 IO (io), F1 IO (io), F2 IO (io), F3 IO (io), F4 IO (io), F5 VCCIO (power), F11 IO (io), F12 VCCIO (power), F14 IO (io), G2 IO (io), G4 DATA6/IO (io), G10 IO (io), H5 nCS/IO (io), H6 DATA7/IO (io), H7 VCCIO (power), H10 VCCIO (power), H15 IO (io), H16 IO (io), J1 IO (io), J4 CLK2 (in), J5 IO (io), J6 nRS/IO (io), J12 IO (io), J13 IO (io), K5 nWS/IO (io), K6 IO (io), K13 IO (io), K14 IO (io), K15 IO (io), K16 CLK1 (in), L2 IO (io), L3 IO (io), L5 DEV_CLRn/IO (io), L6 IO (io), L9 VCCIO (power), L12 VCCIO (power), L13 IO (io), L14 IO (io), L15 IO (io), M2 CS/IO (io), M4 IO (io), M5 IO (io), M9 IO (io), M14 IO (io), M15 IO (io), M16 IO (io), M17 IO (io), N7 VCCIO (power), N8 IO (io), N9 IO (io), N14 VCCIO (power), N15 IO (io), N16 IO (io), N17 IO (io), P4 IO (io), P6 VCCIO (power), P7 IO (io), P8 IO (io), P9 IO (io), P15 IO (io), P16 IO (io), P17 IO (io), P18 IO (io), R5 IO (io), R6 IO (io), R7 IO (io), R8 IO (io), R9 IO (io), R10 IO (io), R17 IO (io), R18 IO (io), T3 IO (io), T4 IO (io), T5 IO (io), T6 IO (io), T7 IO (io), T8 IO (io), T17 IO (io), T18 IO (io), U4 IO (io), U5 IO (io), U6 IO (io), U7 IO (io), U17 IO (io), U18 IO (io), V3 IO (io), V4 IO (io), V5 IO (io), V6 IO (io), V7 IO (io), V8 IO (io), V17 IO (io), V18 IO (io)
part C pins: B10 TRST (in), C9 TDO (out), C10 nCEO (out), J2 DATA0 (in), J3 DCLK (in), J16 MSEL1 (in), J17 MSEL0 (in), K2 nCE (in), K3 TDI (in), K17 nCONFIG (in), U8 CONF_DONE (in), U9 nSTATUS (in), U10 TCK (in), U11 TMS (in)
part D pins: D4 GNDINT (power), D15 GNDINT (power), E5 GNDINT (power), E14 GNDINT (power), F6 GNDINT (power), F7 VCCINT (power), F13 GNDINT (power), G6 VCCINT (power), G7 GNDINT (power), G9 GNDINT (power), G11 VCCINT (power), G12 GNDINT (power), H8 GNDINT (power), H9 VCCINT (power), H11 GNDINT (power), H12 VCCINT (power), J7 VCC_CKLK (power), J8 VCCINT (power), J9 GNDINT (power), J10 GNDINT (power), K7 GND_CKLK (power), K9 GNDINT (power), K10 GNDINT (power), K11 VCCINT (power), K12 VCCINT (power), L7 VCCINT (power), L8 GNDINT (power), L10 VCCINT (power), L11 GNDINT (power), M7 GNDINT (power), M8 VCCINT (power), M12 GNDINT (power), M13 VCCINT (power), N5 VCCINT (power), N6 GNDINT (power), N12 VCCINT (power), N13 GNDINT (power), P5 GNDINT (power), P14 GNDINT (power), R4 GNDINT (power), R15 GNDINT (power)

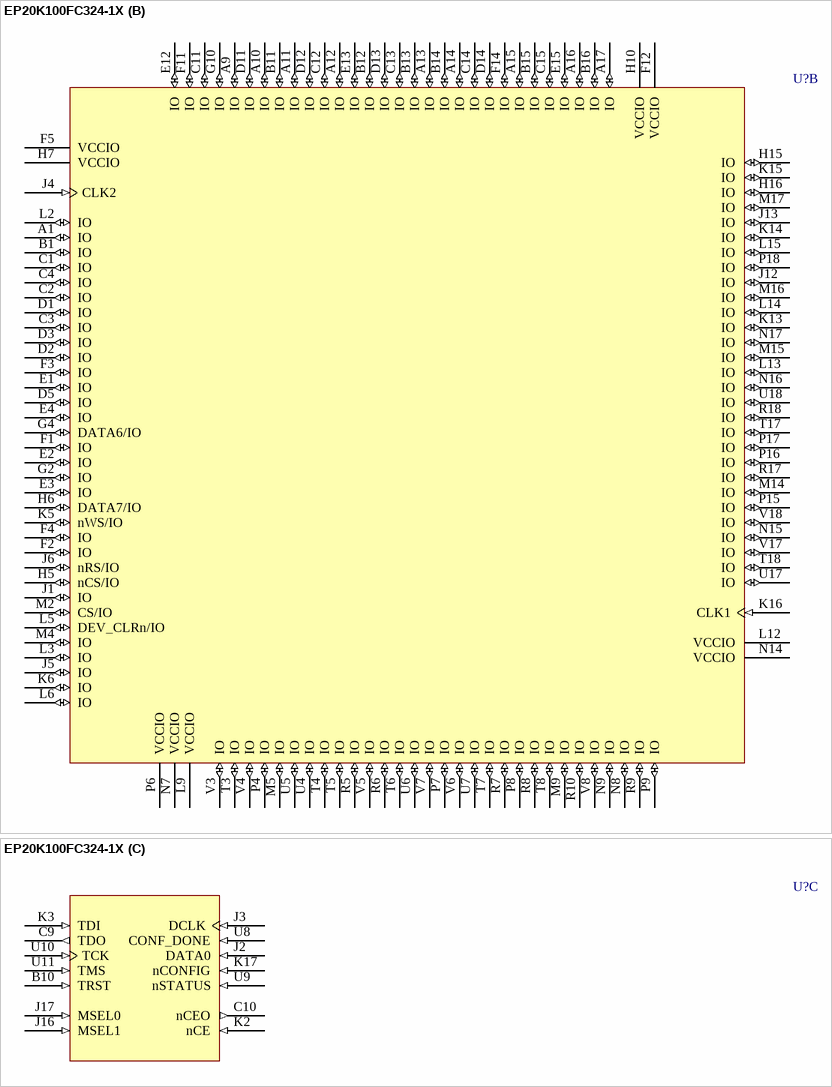
[diagram p11: symbol EP20K100FC324-1X]

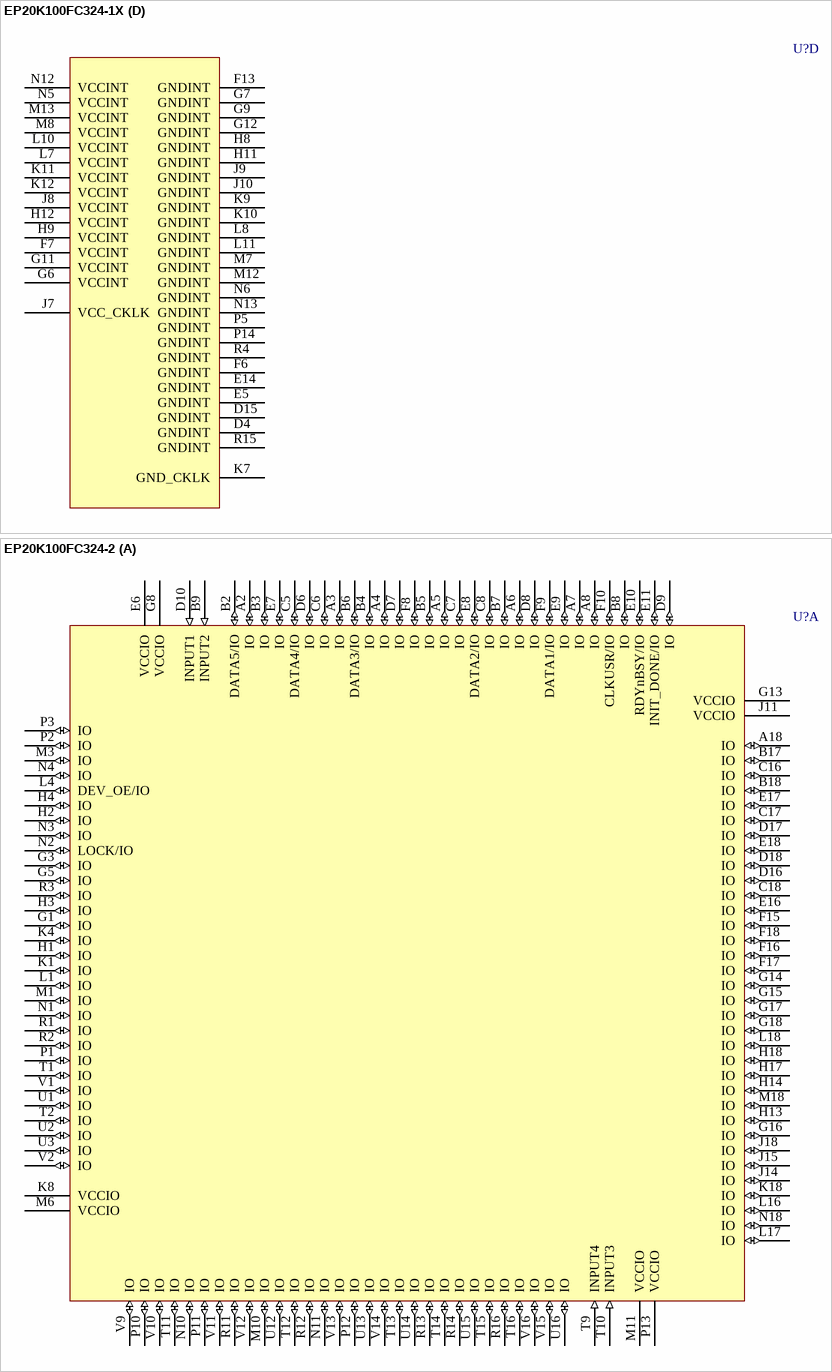
[diagram p12: symbols EP20K100FC324-1X to EP20K100FC324-2]